# Altium footprint library lib_driver.pcblib: 30 footprints (part 3 of 5)
Each footprint in its own frame and in the unit in brackets; x right, y up, seen from the top. Pads: shape width x height; smd on the part's side, far side on the other; paste and mask are expansions set on the pad; w line width, h text height; cw(c..) or ccw(c..) is an arc to the next point about the centre after c.
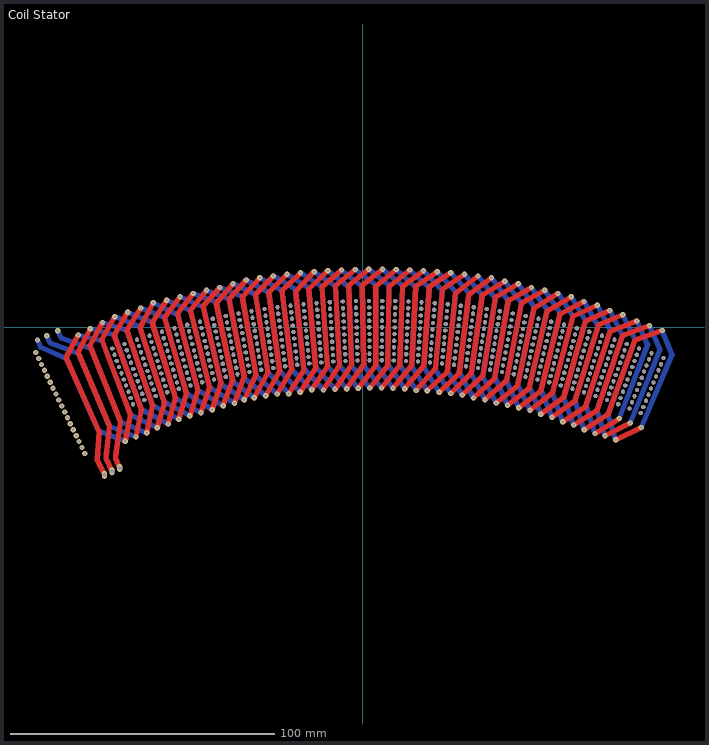
[diagram p2: the footprint, top view; thin cyan lines are the x and y axes]

## Coil Stator [mm] "Planar Coil"
pads (3):
  oval 2x3 hole 1.6: 1(-97.952,-55.855) 2(-95.076,-54.529) 3(-92.182,-53.241)
via 105.254,-32.44 diameter 1.6 hole 1.6
via 106.211,-30.13 diameter 1.6 hole 1.6
via 107.167,-27.82 diameter 1.6 hole 1.6
via 108.124,-25.511 diameter 1.6 hole 1.6
via 109.081,-23.201 diameter 1.6 hole 1.6
via 110.037,-20.891 diameter 1.6 hole 1.6
via 110.994,-18.582 diameter 1.6 hole 1.6
via 111.951,-16.272 diameter 1.6 hole 1.6
via 112.907,-13.962 diameter 1.6 hole 1.6
via 113.864,-11.652 diameter 1.6 hole 1.6
via 109.252,-9.789 diameter 1.6 hole 1.6
via 108.336,-12.115 diameter 1.6 hole 1.6
via 107.42,-14.441 diameter 1.6 hole 1.6
via 106.504,-16.767 diameter 1.6 hole 1.6
via 105.587,-19.093 diameter 1.6 hole 1.6
via 104.671,-21.419 diameter 1.6 hole 1.6
via 103.755,-23.745 diameter 1.6 hole 1.6
via 102.838,-26.071 diameter 1.6 hole 1.6
via 101.922,-28.397 diameter 1.6 hole 1.6
via 101.006,-30.724 diameter 1.6 hole 1.6
via 96.729,-29.082 diameter 1.6 hole 1.6
via 97.604,-26.74 diameter 1.6 hole 1.6
via 98.48,-24.398 diameter 1.6 hole 1.6
via 99.355,-22.057 diameter 1.6 hole 1.6
via 100.231,-19.715 diameter 1.6 hole 1.6
via 101.106,-17.373 diameter 1.6 hole 1.6
via 101.982,-15.032 diameter 1.6 hole 1.6
via 102.857,-12.69 diameter 1.6 hole 1.6
via 103.733,-10.348 diameter 1.6 hole 1.6
via 104.609,-8.007 diameter 1.6 hole 1.6
via 99.934,-6.305 diameter 1.6 hole 1.6
via 99.1,-8.662 diameter 1.6 hole 1.6
via 98.265,-11.018 diameter 1.6 hole 1.6
via 97.431,-13.375 diameter 1.6 hole 1.6
via 96.596,-15.732 diameter 1.6 hole 1.6
via 95.762,-18.088 diameter 1.6 hole 1.6
via 94.927,-20.445 diameter 1.6 hole 1.6
via 94.093,-22.802 diameter 1.6 hole 1.6
via 93.258,-25.158 diameter 1.6 hole 1.6
via 92.424,-27.515 diameter 1.6 hole 1.6
via 88.092,-26.023 diameter 1.6 hole 1.6
via 88.885,-23.652 diameter 1.6 hole 1.6
via 89.678,-21.282 diameter 1.6 hole 1.6
via 90.472,-18.911 diameter 1.6 hole 1.6
via 91.265,-16.54 diameter 1.6 hole 1.6
via 92.058,-14.169 diameter 1.6 hole 1.6
via 92.851,-11.798 diameter 1.6 hole 1.6
via 93.645,-9.427 diameter 1.6 hole 1.6
via 94.438,-7.057 diameter 1.6 hole 1.6
via 95.231,-4.686 diameter 1.6 hole 1.6
via 105.413,-37.928 diameter 2 hole 1
via 95.735,-42.62 diameter 2 hole 1
via 91.666,-41.068 diameter 2 hole 1
via 113.331,-1.186 diameter 2 hole 1
via 108.537,0.666 diameter 2 hole 1
via 103.711,2.434 diameter 2 hole 1
via 101.261,-36.208 diameter 2 hole 1
via 97.079,-34.561 diameter 2 hole 1
via 87.917,-40.24 diameter 2 hole 1
via 103.711,2.434 diameter 2 hole 1
via 108.537,0.666 diameter 2 hole 1
via 113.331,-1.186 diameter 2 hole 1
via 105.413,-37.928 diameter 2 hole 1
via 101.261,-36.208 diameter 2 hole 1
via 97.079,-34.561 diameter 2 hole 1
via 95.735,-42.62 diameter 2 hole 1
via 91.666,-41.068 diameter 2 hole 1
via 87.917,-40.24 diameter 2 hole 1
via 103.711,2.434 diameter 2 hole 1
via 108.537,0.666 diameter 2 hole 1
via 113.331,-1.186 diameter 2 hole 1
via 105.413,-37.928 diameter 2 hole 1
via 101.261,-36.208 diameter 2 hole 1
via 97.079,-34.561 diameter 2 hole 1
via 95.735,-42.62 diameter 2 hole 1
via 91.666,-41.068 diameter 2 hole 1
via 87.917,-40.24 diameter 2 hole 1
via 113.331,-1.186 diameter 2 hole 1
via 108.537,0.666 diameter 2 hole 1
via 103.711,2.434 diameter 2 hole 1
via 105.413,-37.928 diameter 2 hole 1
via 101.261,-36.208 diameter 2 hole 1
via 97.079,-34.561 diameter 2 hole 1
via 95.735,-42.62 diameter 2 hole 1
via 91.666,-41.068 diameter 2 hole 1
via 87.917,-40.24 diameter 2 hole 1
via 113.331,-1.186 diameter 2 hole 1
via 108.537,0.666 diameter 2 hole 1
via 103.711,2.434 diameter 2 hole 1
via 105.413,-37.928 diameter 2 hole 1
via 101.261,-36.208 diameter 2 hole 1
via 97.079,-34.561 diameter 2 hole 1
via 95.735,-42.62 diameter 2 hole 1
via 91.666,-41.068 diameter 2 hole 1
via 87.917,-40.24 diameter 2 hole 1
via 113.331,-1.186 diameter 2 hole 1
via 108.537,0.666 diameter 2 hole 1
via 103.711,2.434 diameter 2 hole 1
via 105.413,-37.928 diameter 2 hole 1
via 101.261,-36.208 diameter 2 hole 1
via 97.079,-34.561 diameter 2 hole 1
via 95.735,-42.62 diameter 2 hole 1
via 91.666,-41.068 diameter 2 hole 1
via 87.917,-40.24 diameter 2 hole 1
via 97.079,-34.561 diameter 2 hole 1
via 58.832,16.577 diameter 2 hole 1
via 68.865,14.025 diameter 2 hole 1
via 63.812,15.099 diameter 2 hole 1
via 38.421,20.133 diameter 2 hole 1
via -45.001,-27.418 diameter 2 hole 1
via 59.018,-30.396 diameter 2 hole 1
via 50.449,-28.653 diameter 2 hole 1
via 54.741,-29.487 diameter 2 hole 1
via 83.808,-38.826 diameter 2 hole 1
via 33.27,-25.075 diameter 2 hole 1
via 79.825,-37.006 diameter 2 hole 1
via -90.052,-43.11 diameter 2 hole 1
via -85.991,-41.49 diameter 2 hole 1
via -81.903,-39.941 diameter 2 hole 1
via -77.953,-37.992 diameter 2 hole 1
via -69.781,-34.771 diameter 2 hole 1
via -65.578,-33.506 diameter 2 hole 1
via -61.353,-32.314 diameter 2 hole 1
via -52.959,-29.667 diameter 2 hole 1
via -48.669,-28.696 diameter 2 hole 1
via -41.215,-26.686 diameter 2 hole 1
via -32.522,-25.232 diameter 2 hole 1
via -36.875,-25.921 diameter 2 hole 1
via -28.093,-25.114 diameter 2 hole 1
via -23.728,-24.578 diameter 2 hole 1
via -19.402,-23.621 diameter 2 hole 1
via -14.972,-23.735 diameter 2 hole 1
via -10.585,-23.428 diameter 2 hole 1
via -6.193,-23.198 diameter 2 hole 1
via -1.797,-23.045 diameter 2 hole 1
via 2.6,-22.968 diameter 2 hole 1
via 6.998,-22.968 diameter 2 hole 1
via 11.396,-23.045 diameter 2 hole 1
via 15.791,-23.198 diameter 2 hole 1
via 20.153,-23.927 diameter 2 hole 1
via 28.905,-24.616 diameter 2 hole 1
via 37.627,-25.61 diameter 2 hole 1
via 41.9,-26.715 diameter 2 hole 1
via 46.226,-27.401 diameter 2 hole 1
via 63.277,-31.38 diameter 2 hole 1
via 67.394,-32.921 diameter 2 hole 1
via 71.609,-34.051 diameter 2 hole 1
via 75.661,-35.733 diameter 2 hole 1
via 12.574,21.94 diameter 2 hole 1
via 98.404,4.797 diameter 2 hole 1
via 93.508,6.388 diameter 2 hole 1
via 88.726,8.373 diameter 2 hole 1
via 83.768,9.794 diameter 2 hole 1
via 78.912,11.613 diameter 2 hole 1
via 73.899,12.863 diameter 2 hole 1
via 53.736,17.475 diameter 2 hole 1
via 48.699,18.779 diameter 2 hole 1
via 43.566,19.501 diameter 2 hole 1
via 33.266,20.674 diameter 2 hole 1
via 28.102,21.126 diameter 2 hole 1
via 22.931,21.488 diameter 2 hole 1
via 17.754,21.759 diameter 2 hole 1
via 7.391,22.03 diameter 2 hole 1
via 2.208,22.03 diameter 2 hole 1
via -2.975,21.94 diameter 2 hole 1
via -8.156,21.759 diameter 2 hole 1
via -13.332,21.488 diameter 2 hole 1
via -18.503,21.126 diameter 2 hole 1
via -23.667,20.674 diameter 2 hole 1
via -28.822,20.133 diameter 2 hole 1
via -33.967,19.501 diameter 2 hole 1
via -39.1,18.779 diameter 2 hole 1
via -44.22,17.969 diameter 2 hole 1
via -49.233,16.577 diameter 2 hole 1
via -54.213,15.099 diameter 2 hole 1
via -59.267,14.025 diameter 2 hole 1
via -64.3,12.863 diameter 2 hole 1
via -69.313,11.613 diameter 2 hole 1
via -74.303,10.276 diameter 2 hole 1
via -79.411,9.332 diameter 2 hole 1
via -84.209,7.342 diameter 2 hole 1
via -89.123,5.746 diameter 2 hole 1
via -94.007,4.064 diameter 2 hole 1
via -98.687,1.828 diameter 2 hole 1
via -103.318,-0.485 diameter 2 hole 1
via -107.901,-2.876 diameter 2 hole 1
via -57.108,-31.197 diameter 2 hole 1
via -73.805,-36.584 diameter 2 hole 1
via 24.301,-23.986 diameter 2 hole 1
via 58.832,16.577 diameter 2 hole 1
via 68.865,14.025 diameter 2 hole 1
via 63.812,15.099 diameter 2 hole 1
via 38.421,20.133 diameter 2 hole 1
via -45.001,-27.418 diameter 2 hole 1
via 59.018,-30.396 diameter 2 hole 1
via 50.449,-28.653 diameter 2 hole 1
via 54.741,-29.487 diameter 2 hole 1
via 83.808,-38.826 diameter 2 hole 1
via 33.27,-25.075 diameter 2 hole 1
via 79.825,-37.006 diameter 2 hole 1
via -90.052,-43.11 diameter 2 hole 1
via -85.991,-41.49 diameter 2 hole 1
via -81.903,-39.941 diameter 2 hole 1
via -77.953,-37.992 diameter 2 hole 1
via -69.781,-34.771 diameter 2 hole 1
via -65.578,-33.506 diameter 2 hole 1
via -61.353,-32.314 diameter 2 hole 1
via -52.959,-29.667 diameter 2 hole 1
via -48.669,-28.696 diameter 2 hole 1
via -41.215,-26.686 diameter 2 hole 1
via -32.522,-25.232 diameter 2 hole 1
via -36.875,-25.921 diameter 2 hole 1
via -28.093,-25.114 diameter 2 hole 1
via -23.728,-24.578 diameter 2 hole 1
via -19.402,-23.621 diameter 2 hole 1
via -14.972,-23.735 diameter 2 hole 1
via -10.585,-23.428 diameter 2 hole 1
via -6.193,-23.198 diameter 2 hole 1
via -1.797,-23.045 diameter 2 hole 1
via 2.6,-22.968 diameter 2 hole 1
via 6.998,-22.968 diameter 2 hole 1
via 11.396,-23.045 diameter 2 hole 1
via 15.791,-23.198 diameter 2 hole 1
via 20.153,-23.927 diameter 2 hole 1
via 28.905,-24.616 diameter 2 hole 1
via 37.627,-25.61 diameter 2 hole 1
via 41.9,-26.715 diameter 2 hole 1
via 46.226,-27.401 diameter 2 hole 1
via 63.277,-31.38 diameter 2 hole 1
via 67.394,-32.921 diameter 2 hole 1
via 71.609,-34.051 diameter 2 hole 1
via 75.661,-35.733 diameter 2 hole 1
via 12.574,21.94 diameter 2 hole 1
via 98.404,4.797 diameter 2 hole 1
via 93.508,6.388 diameter 2 hole 1
via 88.726,8.373 diameter 2 hole 1
via 83.768,9.794 diameter 2 hole 1
via 78.912,11.613 diameter 2 hole 1
via 73.899,12.863 diameter 2 hole 1
via 53.736,17.475 diameter 2 hole 1
via 48.699,18.779 diameter 2 hole 1
via 43.566,19.501 diameter 2 hole 1
via 33.266,20.674 diameter 2 hole 1
via 28.102,21.126 diameter 2 hole 1
via 22.931,21.488 diameter 2 hole 1
via 17.754,21.759 diameter 2 hole 1
via 7.391,22.03 diameter 2 hole 1
via 2.208,22.03 diameter 2 hole 1
via -2.975,21.94 diameter 2 hole 1
via -8.156,21.759 diameter 2 hole 1
via -13.332,21.488 diameter 2 hole 1
via -18.503,21.126 diameter 2 hole 1
via -23.667,20.674 diameter 2 hole 1
via -28.822,20.133 diameter 2 hole 1
via -33.967,19.501 diameter 2 hole 1
via -39.1,18.779 diameter 2 hole 1
via -44.22,17.969 diameter 2 hole 1
via -49.233,16.577 diameter 2 hole 1
via -54.213,15.099 diameter 2 hole 1
via -59.267,14.025 diameter 2 hole 1
via -64.3,12.863 diameter 2 hole 1
via -69.313,11.613 diameter 2 hole 1
via -74.303,10.276 diameter 2 hole 1
via -79.411,9.332 diameter 2 hole 1
via -84.209,7.342 diameter 2 hole 1
via -89.123,5.746 diameter 2 hole 1
via -94.007,4.064 diameter 2 hole 1
via -98.687,1.828 diameter 2 hole 1
via -103.318,-0.485 diameter 2 hole 1
via -107.901,-2.876 diameter 2 hole 1
via -57.108,-31.197 diameter 2 hole 1
via -73.805,-36.584 diameter 2 hole 1
via 24.301,-23.986 diameter 2 hole 1
via 58.832,16.577 diameter 2 hole 1
via 68.865,14.025 diameter 2 hole 1
via 63.812,15.099 diameter 2 hole 1
via 38.421,20.133 diameter 2 hole 1
via -45.001,-27.418 diameter 2 hole 1
via 59.018,-30.396 diameter 2 hole 1
via 50.449,-28.653 diameter 2 hole 1
via 54.741,-29.487 diameter 2 hole 1
via 83.808,-38.826 diameter 2 hole 1
via 33.27,-25.075 diameter 2 hole 1
via 79.825,-37.006 diameter 2 hole 1
via -90.052,-43.11 diameter 2 hole 1
via -85.991,-41.49 diameter 2 hole 1
via -81.903,-39.941 diameter 2 hole 1
via -77.953,-37.992 diameter 2 hole 1
via -69.781,-34.771 diameter 2 hole 1
via -65.578,-33.506 diameter 2 hole 1
via -61.353,-32.314 diameter 2 hole 1
via -52.959,-29.667 diameter 2 hole 1
via -48.669,-28.696 diameter 2 hole 1
via -41.215,-26.686 diameter 2 hole 1
via -32.522,-25.232 diameter 2 hole 1
via -36.875,-25.921 diameter 2 hole 1
via -28.093,-25.114 diameter 2 hole 1
via -23.728,-24.578 diameter 2 hole 1
via -19.402,-23.621 diameter 2 hole 1
via -14.972,-23.735 diameter 2 hole 1
via -10.585,-23.428 diameter 2 hole 1
via -6.193,-23.198 diameter 2 hole 1
via -1.797,-23.045 diameter 2 hole 1
via 2.6,-22.968 diameter 2 hole 1
via 6.998,-22.968 diameter 2 hole 1
via 11.396,-23.045 diameter 2 hole 1
via 15.791,-23.198 diameter 2 hole 1
via 20.153,-23.927 diameter 2 hole 1
via 28.905,-24.616 diameter 2 hole 1
via 37.627,-25.61 diameter 2 hole 1
via 41.9,-26.715 diameter 2 hole 1
via 46.226,-27.401 diameter 2 hole 1
via 63.277,-31.38 diameter 2 hole 1
via 67.394,-32.921 diameter 2 hole 1
via 71.609,-34.051 diameter 2 hole 1
via 75.661,-35.733 diameter 2 hole 1
via 12.574,21.94 diameter 2 hole 1
via 98.404,4.797 diameter 2 hole 1
via 93.508,6.388 diameter 2 hole 1
via 88.726,8.373 diameter 2 hole 1
via 83.768,9.794 diameter 2 hole 1
via 78.912,11.613 diameter 2 hole 1
via 73.899,12.863 diameter 2 hole 1
via 53.736,17.475 diameter 2 hole 1
via 48.699,18.779 diameter 2 hole 1
via 43.566,19.501 diameter 2 hole 1
via 33.266,20.674 diameter 2 hole 1
via 28.102,21.126 diameter 2 hole 1
via 22.931,21.488 diameter 2 hole 1
via 17.754,21.759 diameter 2 hole 1
via 7.391,22.03 diameter 2 hole 1
via 2.208,22.03 diameter 2 hole 1
via -2.975,21.94 diameter 2 hole 1
via -8.156,21.759 diameter 2 hole 1
via -13.332,21.488 diameter 2 hole 1
via -18.503,21.126 diameter 2 hole 1
via -23.667,20.674 diameter 2 hole 1
via -28.822,20.133 diameter 2 hole 1
via -33.967,19.501 diameter 2 hole 1
via -39.1,18.779 diameter 2 hole 1
via -44.22,17.969 diameter 2 hole 1
via -49.233,16.577 diameter 2 hole 1
via -54.213,15.099 diameter 2 hole 1
via -59.267,14.025 diameter 2 hole 1
via -64.3,12.863 diameter 2 hole 1
via -69.313,11.613 diameter 2 hole 1
via -74.303,10.276 diameter 2 hole 1
via -79.411,9.332 diameter 2 hole 1
via -84.209,7.342 diameter 2 hole 1
via -89.123,5.746 diameter 2 hole 1
via -94.007,4.064 diameter 2 hole 1
via -98.687,1.828 diameter 2 hole 1
via -103.318,-0.485 diameter 2 hole 1
via -107.901,-2.876 diameter 2 hole 1
via -57.108,-31.197 diameter 2 hole 1
via -73.805,-36.584 diameter 2 hole 1
via 24.301,-23.986 diameter 2 hole 1
via 58.832,16.577 diameter 2 hole 1
via 68.865,14.025 diameter 2 hole 1
via 63.812,15.099 diameter 2 hole 1
via 38.421,20.133 diameter 2 hole 1
via -45.001,-27.418 diameter 2 hole 1
via 59.018,-30.396 diameter 2 hole 1
via 50.449,-28.653 diameter 2 hole 1
via 54.741,-29.487 diameter 2 hole 1
via 83.808,-38.826 diameter 2 hole 1
via 33.27,-25.075 diameter 2 hole 1
via 79.825,-37.006 diameter 2 hole 1
via -90.052,-43.11 diameter 2 hole 1
via -85.991,-41.49 diameter 2 hole 1
via -81.903,-39.941 diameter 2 hole 1
via -77.953,-37.992 diameter 2 hole 1
via -69.781,-34.771 diameter 2 hole 1
via -65.578,-33.506 diameter 2 hole 1
via -61.353,-32.314 diameter 2 hole 1
via -52.959,-29.667 diameter 2 hole 1
via -48.669,-28.696 diameter 2 hole 1
via -41.215,-26.686 diameter 2 hole 1
via -32.522,-25.232 diameter 2 hole 1
via -36.875,-25.921 diameter 2 hole 1
via -28.093,-25.114 diameter 2 hole 1
via -23.728,-24.578 diameter 2 hole 1
via -19.402,-23.621 diameter 2 hole 1
via -14.972,-23.735 diameter 2 hole 1
via -10.585,-23.428 diameter 2 hole 1
via -6.193,-23.198 diameter 2 hole 1
via -1.797,-23.045 diameter 2 hole 1
via 2.6,-22.968 diameter 2 hole 1
via 6.998,-22.968 diameter 2 hole 1
via 11.396,-23.045 diameter 2 hole 1
via 15.791,-23.198 diameter 2 hole 1
via 20.153,-23.927 diameter 2 hole 1
via 28.905,-24.616 diameter 2 hole 1
via 37.627,-25.61 diameter 2 hole 1
via 41.9,-26.715 diameter 2 hole 1
via 46.226,-27.401 diameter 2 hole 1
via 63.277,-31.38 diameter 2 hole 1
via 67.394,-32.921 diameter 2 hole 1
via 71.609,-34.051 diameter 2 hole 1
via 75.661,-35.733 diameter 2 hole 1
via 12.574,21.94 diameter 2 hole 1
via 98.404,4.797 diameter 2 hole 1
via 93.508,6.388 diameter 2 hole 1
via 88.726,8.373 diameter 2 hole 1
via 83.768,9.794 diameter 2 hole 1
via 78.912,11.613 diameter 2 hole 1
via 73.899,12.863 diameter 2 hole 1
via 53.736,17.475 diameter 2 hole 1
via 48.699,18.779 diameter 2 hole 1
via 43.566,19.501 diameter 2 hole 1
via 33.266,20.674 diameter 2 hole 1
via 28.102,21.126 diameter 2 hole 1
via 22.931,21.488 diameter 2 hole 1
via 17.754,21.759 diameter 2 hole 1
via 7.391,22.03 diameter 2 hole 1
via 2.208,22.03 diameter 2 hole 1
via -2.975,21.94 diameter 2 hole 1
via -8.156,21.759 diameter 2 hole 1
via -13.332,21.488 diameter 2 hole 1
via -18.503,21.126 diameter 2 hole 1
via -23.667,20.674 diameter 2 hole 1
via -28.822,20.133 diameter 2 hole 1
via -33.967,19.501 diameter 2 hole 1
via -39.1,18.779 diameter 2 hole 1
via -44.22,17.969 diameter 2 hole 1
via -49.233,16.577 diameter 2 hole 1
via -54.213,15.099 diameter 2 hole 1
via -59.267,14.025 diameter 2 hole 1
via -64.3,12.863 diameter 2 hole 1
via -69.313,11.613 diameter 2 hole 1
via -74.303,10.276 diameter 2 hole 1
via -79.411,9.332 diameter 2 hole 1
via -84.209,7.342 diameter 2 hole 1
via -89.123,5.746 diameter 2 hole 1
via -94.007,4.064 diameter 2 hole 1
via -98.687,1.828 diameter 2 hole 1
via -103.318,-0.485 diameter 2 hole 1
via -107.901,-2.876 diameter 2 hole 1
via -57.108,-31.197 diameter 2 hole 1
via -73.805,-36.584 diameter 2 hole 1
via 24.301,-23.986 diameter 2 hole 1
via 58.832,16.577 diameter 2 hole 1
via 68.865,14.025 diameter 2 hole 1
via 63.812,15.099 diameter 2 hole 1
via 38.421,20.133 diameter 2 hole 1
via -45.001,-27.418 diameter 2 hole 1
via 59.018,-30.396 diameter 2 hole 1
via 50.449,-28.653 diameter 2 hole 1
via 54.741,-29.487 diameter 2 hole 1
via 83.808,-38.826 diameter 2 hole 1
via 33.27,-25.075 diameter 2 hole 1
via 79.825,-37.006 diameter 2 hole 1
via -90.052,-43.11 diameter 2 hole 1
via -85.991,-41.49 diameter 2 hole 1
via -81.903,-39.941 diameter 2 hole 1
via -77.953,-37.992 diameter 2 hole 1
via -69.781,-34.771 diameter 2 hole 1
via -65.578,-33.506 diameter 2 hole 1
via -61.353,-32.314 diameter 2 hole 1
via -52.959,-29.667 diameter 2 hole 1
via -48.669,-28.696 diameter 2 hole 1
via -41.215,-26.686 diameter 2 hole 1
via -32.522,-25.232 diameter 2 hole 1
via -36.875,-25.921 diameter 2 hole 1
via -28.093,-25.114 diameter 2 hole 1
via -23.728,-24.578 diameter 2 hole 1
via -19.402,-23.621 diameter 2 hole 1
via -14.972,-23.735 diameter 2 hole 1
via -10.585,-23.428 diameter 2 hole 1
via -6.193,-23.198 diameter 2 hole 1
via -1.797,-23.045 diameter 2 hole 1
via 2.6,-22.968 diameter 2 hole 1
via 6.998,-22.968 diameter 2 hole 1
via 11.396,-23.045 diameter 2 hole 1
via 15.791,-23.198 diameter 2 hole 1
via 20.153,-23.927 diameter 2 hole 1
via 28.905,-24.616 diameter 2 hole 1
via 37.627,-25.61 diameter 2 hole 1
via 41.9,-26.715 diameter 2 hole 1
via 46.226,-27.401 diameter 2 hole 1
via 63.277,-31.38 diameter 2 hole 1
via 67.394,-32.921 diameter 2 hole 1
via 71.609,-34.051 diameter 2 hole 1
via 75.661,-35.733 diameter 2 hole 1
via 12.574,21.94 diameter 2 hole 1
via 98.404,4.797 diameter 2 hole 1
via 93.508,6.388 diameter 2 hole 1
via 88.726,8.373 diameter 2 hole 1
via 83.768,9.794 diameter 2 hole 1
via 78.912,11.613 diameter 2 hole 1
via 73.899,12.863 diameter 2 hole 1
via 53.736,17.475 diameter 2 hole 1
via 48.699,18.779 diameter 2 hole 1
via 43.566,19.501 diameter 2 hole 1
via 33.266,20.674 diameter 2 hole 1
via 28.102,21.126 diameter 2 hole 1
via 22.931,21.488 diameter 2 hole 1
via 17.754,21.759 diameter 2 hole 1
via 7.391,22.03 diameter 2 hole 1
via 2.208,22.03 diameter 2 hole 1
via -2.975,21.94 diameter 2 hole 1
via -8.156,21.759 diameter 2 hole 1
via -13.332,21.488 diameter 2 hole 1
via -18.503,21.126 diameter 2 hole 1
via -23.667,20.674 diameter 2 hole 1
via -28.822,20.133 diameter 2 hole 1
via -33.967,19.501 diameter 2 hole 1
via -39.1,18.779 diameter 2 hole 1
via -44.22,17.969 diameter 2 hole 1
via -49.233,16.577 diameter 2 hole 1
via -54.213,15.099 diameter 2 hole 1
via -59.267,14.025 diameter 2 hole 1
via -64.3,12.863 diameter 2 hole 1
via -69.313,11.613 diameter 2 hole 1
via -74.303,10.276 diameter 2 hole 1
via -79.411,9.332 diameter 2 hole 1
via -84.209,7.342 diameter 2 hole 1
via -89.123,5.746 diameter 2 hole 1
via -94.007,4.064 diameter 2 hole 1
via -98.687,1.828 diameter 2 hole 1
via -103.318,-0.485 diameter 2 hole 1
via -107.901,-2.876 diameter 2 hole 1
via -57.108,-31.197 diameter 2 hole 1
via -73.805,-36.584 diameter 2 hole 1
via 24.301,-23.986 diameter 2 hole 1
via 58.832,16.577 diameter 2 hole 1
via 68.865,14.025 diameter 2 hole 1
via 63.812,15.099 diameter 2 hole 1
via 38.421,20.133 diameter 2 hole 1
via -45.001,-27.418 diameter 2 hole 1
via 59.018,-30.396 diameter 2 hole 1
via 50.449,-28.653 diameter 2 hole 1
via 54.741,-29.487 diameter 2 hole 1
via 83.808,-38.826 diameter 2 hole 1
via 33.27,-25.075 diameter 2 hole 1
via 79.825,-37.006 diameter 2 hole 1
via -90.052,-43.11 diameter 2 hole 1
via -85.991,-41.49 diameter 2 hole 1
via -81.903,-39.941 diameter 2 hole 1
via -77.953,-37.992 diameter 2 hole 1
via -69.781,-34.771 diameter 2 hole 1
via -65.578,-33.506 diameter 2 hole 1
via -61.353,-32.314 diameter 2 hole 1
via -52.959,-29.667 diameter 2 hole 1
via -48.669,-28.696 diameter 2 hole 1
via -41.215,-26.686 diameter 2 hole 1
via -32.522,-25.232 diameter 2 hole 1
via -36.875,-25.921 diameter 2 hole 1
via -28.093,-25.114 diameter 2 hole 1
via -23.728,-24.578 diameter 2 hole 1
via -19.402,-23.621 diameter 2 hole 1
via -14.972,-23.735 diameter 2 hole 1
via -10.585,-23.428 diameter 2 hole 1
via -6.193,-23.198 diameter 2 hole 1
via -1.797,-23.045 diameter 2 hole 1
via 2.6,-22.968 diameter 2 hole 1
via 6.998,-22.968 diameter 2 hole 1
via 11.396,-23.045 diameter 2 hole 1
via 15.791,-23.198 diameter 2 hole 1
via 20.153,-23.927 diameter 2 hole 1
via 28.905,-24.616 diameter 2 hole 1
via 37.627,-25.61 diameter 2 hole 1
via 41.9,-26.715 diameter 2 hole 1
via 46.226,-27.401 diameter 2 hole 1
via 63.277,-31.38 diameter 2 hole 1
via 67.394,-32.921 diameter 2 hole 1
via 71.609,-34.051 diameter 2 hole 1
via 75.661,-35.733 diameter 2 hole 1
via 12.574,21.94 diameter 2 hole 1
via 98.404,4.797 diameter 2 hole 1
via 93.508,6.388 diameter 2 hole 1
via 88.726,8.373 diameter 2 hole 1
via 83.768,9.794 diameter 2 hole 1
via 78.912,11.613 diameter 2 hole 1
via 73.899,12.863 diameter 2 hole 1
via 53.736,17.475 diameter 2 hole 1
via 48.699,18.779 diameter 2 hole 1
via 43.566,19.501 diameter 2 hole 1
via 33.266,20.674 diameter 2 hole 1
via 28.102,21.126 diameter 2 hole 1
via 22.931,21.488 diameter 2 hole 1
via 17.754,21.759 diameter 2 hole 1
via 7.391,22.03 diameter 2 hole 1
via 2.208,22.03 diameter 2 hole 1
via -2.975,21.94 diameter 2 hole 1
via -8.156,21.759 diameter 2 hole 1
via -13.332,21.488 diameter 2 hole 1
via -18.503,21.126 diameter 2 hole 1
via -23.667,20.674 diameter 2 hole 1
via -28.822,20.133 diameter 2 hole 1
via -33.967,19.501 diameter 2 hole 1
via -39.1,18.779 diameter 2 hole 1
via -44.22,17.969 diameter 2 hole 1
via -49.233,16.577 diameter 2 hole 1
via -54.213,15.099 diameter 2 hole 1
via -59.267,14.025 diameter 2 hole 1
via -64.3,12.863 diameter 2 hole 1
via -69.313,11.613 diameter 2 hole 1
via -74.303,10.276 diameter 2 hole 1
via -79.411,9.332 diameter 2 hole 1
via -84.209,7.342 diameter 2 hole 1
via -89.123,5.746 diameter 2 hole 1
via -94.007,4.064 diameter 2 hole 1
via -98.687,1.828 diameter 2 hole 1
via -103.318,-0.485 diameter 2 hole 1
via -107.901,-2.876 diameter 2 hole 1
via -57.108,-31.197 diameter 2 hole 1
via -73.805,-36.584 diameter 2 hole 1
via 24.301,-23.986 diameter 2 hole 1
via 24.301,-23.986 diameter 2 hole 1
via -73.805,-36.584 diameter 2 hole 1
via -57.108,-31.197 diameter 2 hole 1
via -107.901,-2.876 diameter 2 hole 1
via -103.318,-0.485 diameter 2 hole 1
via -98.687,1.828 diameter 2 hole 1
via -94.007,4.064 diameter 2 hole 1
via -89.123,5.746 diameter 2 hole 1
via -84.209,7.342 diameter 2 hole 1
via -79.411,9.332 diameter 2 hole 1
via -74.303,10.276 diameter 2 hole 1
via -69.313,11.613 diameter 2 hole 1
via -64.3,12.863 diameter 2 hole 1
via -59.267,14.025 diameter 2 hole 1
via -54.213,15.099 diameter 2 hole 1
via -49.233,16.577 diameter 2 hole 1
via -44.22,17.969 diameter 2 hole 1
via -39.1,18.779 diameter 2 hole 1
via -33.967,19.501 diameter 2 hole 1
via -28.822,20.133 diameter 2 hole 1
via -23.667,20.674 diameter 2 hole 1
via -18.503,21.126 diameter 2 hole 1
via -13.332,21.488 diameter 2 hole 1
via -8.156,21.759 diameter 2 hole 1
via -2.975,21.94 diameter 2 hole 1
via 2.208,22.03 diameter 2 hole 1
via 7.391,22.03 diameter 2 hole 1
via 17.754,21.759 diameter 2 hole 1
via 22.931,21.488 diameter 2 hole 1
via 28.102,21.126 diameter 2 hole 1
via 33.266,20.674 diameter 2 hole 1
via 43.566,19.501 diameter 2 hole 1
via 48.699,18.779 diameter 2 hole 1
via 53.736,17.475 diameter 2 hole 1
via 73.899,12.863 diameter 2 hole 1
via 78.912,11.613 diameter 2 hole 1
via 83.768,9.794 diameter 2 hole 1
via 88.726,8.373 diameter 2 hole 1
via 93.508,6.388 diameter 2 hole 1
via 98.404,4.797 diameter 2 hole 1
via 12.574,21.94 diameter 2 hole 1
via 75.661,-35.733 diameter 2 hole 1
via 71.609,-34.051 diameter 2 hole 1
via 67.394,-32.921 diameter 2 hole 1
via 63.277,-31.38 diameter 2 hole 1
via 46.226,-27.401 diameter 2 hole 1
via 41.9,-26.715 diameter 2 hole 1
via 37.627,-25.61 diameter 2 hole 1
via 28.905,-24.616 diameter 2 hole 1
via 20.153,-23.927 diameter 2 hole 1
via 15.791,-23.198 diameter 2 hole 1
via 11.396,-23.045 diameter 2 hole 1
via 6.998,-22.968 diameter 2 hole 1
via 2.6,-22.968 diameter 2 hole 1
via -1.797,-23.045 diameter 2 hole 1
via -6.193,-23.198 diameter 2 hole 1
via -10.585,-23.428 diameter 2 hole 1
via -14.972,-23.735 diameter 2 hole 1
via -19.402,-23.621 diameter 2 hole 1
via -23.728,-24.578 diameter 2 hole 1
via -28.093,-25.114 diameter 2 hole 1
via -36.875,-25.921 diameter 2 hole 1
via -32.522,-25.232 diameter 2 hole 1
via -41.215,-26.686 diameter 2 hole 1
via -48.669,-28.696 diameter 2 hole 1
via -52.959,-29.667 diameter 2 hole 1
via -61.353,-32.314 diameter 2 hole 1
via -65.578,-33.506 diameter 2 hole 1
via -69.781,-34.771 diameter 2 hole 1
via -77.953,-37.992 diameter 2 hole 1
via -81.903,-39.941 diameter 2 hole 1
via -85.991,-41.49 diameter 2 hole 1
via -90.052,-43.11 diameter 2 hole 1
via 79.825,-37.006 diameter 2 hole 1
via 33.27,-25.075 diameter 2 hole 1
via -95.01,-8.007 diameter 1.6 hole 1.6
via -92.383,-15.032 diameter 1.6 hole 1.6
via -93.259,-12.69 diameter 1.6 hole 1.6
via -91.508,-17.373 diameter 1.6 hole 1.6
via -90.632,-19.715 diameter 1.6 hole 1.6
via -89.757,-22.057 diameter 1.6 hole 1.6
via -88.881,-24.398 diameter 1.6 hole 1.6
via -88.006,-26.74 diameter 1.6 hole 1.6
via -87.13,-29.082 diameter 1.6 hole 1.6
via -94.134,-10.348 diameter 1.6 hole 1.6
via -90.336,-6.305 diameter 1.6 hole 1.6
via -89.501,-8.662 diameter 1.6 hole 1.6
via -88.667,-11.018 diameter 1.6 hole 1.6
via -87.832,-13.375 diameter 1.6 hole 1.6
via -86.997,-15.732 diameter 1.6 hole 1.6
via -86.163,-18.088 diameter 1.6 hole 1.6
via -85.328,-20.445 diameter 1.6 hole 1.6
via -84.494,-22.802 diameter 1.6 hole 1.6
via -83.659,-25.158 diameter 1.6 hole 1.6
via -82.825,-27.515 diameter 1.6 hole 1.6
via -85.632,-4.686 diameter 1.6 hole 1.6
via -84.046,-9.427 diameter 1.6 hole 1.6
via -84.839,-7.057 diameter 1.6 hole 1.6
via -83.253,-11.798 diameter 1.6 hole 1.6
via -82.459,-14.169 diameter 1.6 hole 1.6
via -81.666,-16.54 diameter 1.6 hole 1.6
via -80.873,-18.911 diameter 1.6 hole 1.6
via -80.08,-21.282 diameter 1.6 hole 1.6
via -79.286,-23.652 diameter 1.6 hole 1.6
via -80.15,-5.533 diameter 1.6 hole 1.6
via -79.398,-7.917 diameter 1.6 hole 1.6
via -78.646,-10.302 diameter 1.6 hole 1.6
via -77.895,-12.686 diameter 1.6 hole 1.6
via -77.143,-15.07 diameter 1.6 hole 1.6
via -76.391,-17.455 diameter 1.6 hole 1.6
via -75.639,-19.839 diameter 1.6 hole 1.6
via -74.888,-22.223 diameter 1.6 hole 1.6
via -74.136,-24.607 diameter 1.6 hole 1.6
via -78.493,-26.023 diameter 1.6 hole 1.6
via -80.902,-3.149 diameter 1.6 hole 1.6
via -76.145,-1.694 diameter 1.6 hole 1.6
via -75.435,-4.092 diameter 1.6 hole 1.6
via -74.725,-6.489 diameter 1.6 hole 1.6
via -74.015,-8.886 diameter 1.6 hole 1.6
via -73.305,-11.283 diameter 1.6 hole 1.6
via -72.595,-13.68 diameter 1.6 hole 1.6
via -71.885,-16.077 diameter 1.6 hole 1.6
via -71.175,-18.474 diameter 1.6 hole 1.6
via -70.465,-20.871 diameter 1.6 hole 1.6
via -69.755,-23.268 diameter 1.6 hole 1.6
via -71.364,-0.323 diameter 1.6 hole 1.6
via -70.695,-2.733 diameter 1.6 hole 1.6
via -70.027,-5.142 diameter 1.6 hole 1.6
via -69.359,-7.551 diameter 1.6 hole 1.6
via -68.691,-9.96 diameter 1.6 hole 1.6
via -68.023,-12.369 diameter 1.6 hole 1.6
via -67.355,-14.778 diameter 1.6 hole 1.6
via -66.687,-17.187 diameter 1.6 hole 1.6
via -66.019,-19.596 diameter 1.6 hole 1.6
via -65.351,-22.005 diameter 1.6 hole 1.6
via -66.559,0.964 diameter 1.6 hole 1.6
via -65.933,-1.456 diameter 1.6 hole 1.6
via -65.307,-3.877 diameter 1.6 hole 1.6
via -64.681,-6.297 diameter 1.6 hole 1.6
via -64.055,-8.718 diameter 1.6 hole 1.6
via -63.429,-11.138 diameter 1.6 hole 1.6
via -62.803,-13.558 diameter 1.6 hole 1.6
via -62.177,-15.979 diameter 1.6 hole 1.6
via -61.551,-18.399 diameter 1.6 hole 1.6
via -60.925,-20.819 diameter 1.6 hole 1.6
via -61.733,2.167 diameter 1.6 hole 1.6
via -61.149,-0.264 diameter 1.6 hole 1.6
via -60.565,-2.695 diameter 1.6 hole 1.6
via -59.982,-5.125 diameter 1.6 hole 1.6
via -58.814,-9.987 diameter 1.6 hole 1.6
via -58.231,-12.418 diameter 1.6 hole 1.6
via -57.647,-14.849 diameter 1.6 hole 1.6
via -57.064,-17.28 diameter 1.6 hole 1.6
via -56.48,-19.711 diameter 1.6 hole 1.6
via -56.886,3.286 diameter 1.6 hole 1.6
via -56.345,0.846 diameter 1.6 hole 1.6
via -55.804,-1.595 diameter 1.6 hole 1.6
via -55.263,-4.036 diameter 1.6 hole 1.6
via -54.721,-6.477 diameter 1.6 hole 1.6
via -53.639,-11.358 diameter 1.6 hole 1.6
via -53.098,-13.799 diameter 1.6 hole 1.6
via -52.557,-16.24 diameter 1.6 hole 1.6
via -52.016,-18.68 diameter 1.6 hole 1.6
via -59.398,-7.556 diameter 1.6 hole 1.6
via -54.18,-8.917 diameter 1.6 hole 1.6
via -52.02,4.32 diameter 1.6 hole 1.6
via -51.522,1.871 diameter 1.6 hole 1.6
via -51.024,-0.579 diameter 1.6 hole 1.6
via -50.525,-3.029 diameter 1.6 hole 1.6
via -50.027,-5.479 diameter 1.6 hole 1.6
via -49.528,-7.929 diameter 1.6 hole 1.6
via -49.03,-10.378 diameter 1.6 hole 1.6
via -48.532,-12.828 diameter 1.6 hole 1.6
via -48.033,-15.278 diameter 1.6 hole 1.6
via -47.535,-17.728 diameter 1.6 hole 1.6
via -43.037,-16.854 diameter 1.6 hole 1.6
via -47.138,5.27 diameter 1.6 hole 1.6
via -46.682,2.811 diameter 1.6 hole 1.6
via -46.227,0.353 diameter 1.6 hole 1.6
via -45.771,-2.105 diameter 1.6 hole 1.6
via -45.315,-4.563 diameter 1.6 hole 1.6
via -44.86,-7.021 diameter 1.6 hole 1.6
via -44.404,-9.479 diameter 1.6 hole 1.6
via -43.949,-11.937 diameter 1.6 hole 1.6
via -43.493,-14.396 diameter 1.6 hole 1.6
via -42.239,6.133 diameter 1.6 hole 1.6
via -41.827,3.668 diameter 1.6 hole 1.6
via -41.414,1.202 diameter 1.6 hole 1.6
via -41.001,-1.264 diameter 1.6 hole 1.6
via -40.589,-3.73 diameter 1.6 hole 1.6
via -40.176,-6.195 diameter 1.6 hole 1.6
via -39.763,-8.661 diameter 1.6 hole 1.6
via -39.351,-11.127 diameter 1.6 hole 1.6
via -38.938,-13.592 diameter 1.6 hole 1.6
via -34.001,-15.341 diameter 1.6 hole 1.6
via -37.326,6.911 diameter 1.6 hole 1.6
via -36.957,4.439 diameter 1.6 hole 1.6
via -36.587,1.966 diameter 1.6 hole 1.6
via -36.218,-0.506 diameter 1.6 hole 1.6
via -35.848,-2.979 diameter 1.6 hole 1.6
via -35.479,-5.451 diameter 1.6 hole 1.6
via -35.109,-7.924 diameter 1.6 hole 1.6
via -34.74,-10.396 diameter 1.6 hole 1.6
via -34.37,-12.869 diameter 1.6 hole 1.6
via -32.401,7.604 diameter 1.6 hole 1.6
via -32.074,5.125 diameter 1.6 hole 1.6
via -31.748,2.646 diameter 1.6 hole 1.6
via -31.422,0.168 diameter 1.6 hole 1.6
via -31.095,-2.311 diameter 1.6 hole 1.6
via -30.769,-4.789 diameter 1.6 hole 1.6
via -30.443,-7.268 diameter 1.6 hole 1.6
via -30.116,-9.747 diameter 1.6 hole 1.6
via -29.79,-12.225 diameter 1.6 hole 1.6
via -24.916,-14.146 diameter 1.6 hole 1.6
via -27.464,8.21 diameter 1.6 hole 1.6
via -27.18,5.726 diameter 1.6 hole 1.6
via -26.897,3.242 diameter 1.6 hole 1.6
via -26.614,0.758 diameter 1.6 hole 1.6
via -26.331,-1.726 diameter 1.6 hole 1.6
via -26.048,-4.21 diameter 1.6 hole 1.6
via -25.765,-6.694 diameter 1.6 hole 1.6
via -29.464,-14.704 diameter 1.6 hole 1.6
via -25.199,-11.662 diameter 1.6 hole 1.6
via -25.482,-9.178 diameter 1.6 hole 1.6
via -38.526,-16.058 diameter 1.6 hole 1.6
via -22.517,8.73 diameter 1.6 hole 1.6
via -22.277,6.241 diameter 1.6 hole 1.6
via -22.037,3.753 diameter 1.6 hole 1.6
via -21.798,1.264 diameter 1.6 hole 1.6
via -21.558,-1.224 diameter 1.6 hole 1.6
via -21.319,-3.713 diameter 1.6 hole 1.6
via -21.079,-6.201 diameter 1.6 hole 1.6
via -20.839,-8.69 diameter 1.6 hole 1.6
via -20.6,-11.178 diameter 1.6 hole 1.6
via -20.36,-13.667 diameter 1.6 hole 1.6
via -17.561,9.163 diameter 1.6 hole 1.6
via -12.599,9.51 diameter 1.6 hole 1.6
via -7.632,9.771 diameter 1.6 hole 1.6
via -7.523,7.273 diameter 1.6 hole 1.6
via -7.414,4.775 diameter 1.6 hole 1.6
via -7.305,2.278 diameter 1.6 hole 1.6
via -7.196,-0.22 diameter 1.6 hole 1.6
via -7.087,-2.717 diameter 1.6 hole 1.6
via -6.978,-5.215 diameter 1.6 hole 1.6
via -6.869,-7.713 diameter 1.6 hole 1.6
via -6.76,-10.21 diameter 1.6 hole 1.6
via -6.651,-12.708 diameter 1.6 hole 1.6
via -12.447,7.015 diameter 1.6 hole 1.6
via -12.294,4.52 diameter 1.6 hole 1.6
via -12.142,2.024 diameter 1.6 hole 1.6
via -11.989,-0.471 diameter 1.6 hole 1.6
via -11.836,-2.966 diameter 1.6 hole 1.6
via -11.684,-5.462 diameter 1.6 hole 1.6
via -11.531,-7.957 diameter 1.6 hole 1.6
via -11.378,-10.452 diameter 1.6 hole 1.6
via -11.226,-12.948 diameter 1.6 hole 1.6
via -17.365,6.671 diameter 1.6 hole 1.6
via -17.169,4.179 diameter 1.6 hole 1.6
via -16.973,1.686 diameter 1.6 hole 1.6
via -16.777,-0.806 diameter 1.6 hole 1.6
via -16.581,-3.298 diameter 1.6 hole 1.6
via -16.385,-5.79 diameter 1.6 hole 1.6
via -16.188,-8.283 diameter 1.6 hole 1.6
via -15.992,-10.775 diameter 1.6 hole 1.6
via -15.796,-13.267 diameter 1.6 hole 1.6
via -2.661,9.944 diameter 1.6 hole 1.6
via 2.312,10.031 diameter 1.6 hole 1.6
via 7.286,10.031 diameter 1.6 hole 1.6
via 12.26,9.944 diameter 1.6 hole 1.6
via 12.194,7.445 diameter 1.6 hole 1.6
via 12.129,4.946 diameter 1.6 hole 1.6
via 12.064,2.447 diameter 1.6 hole 1.6
via 11.998,-0.052 diameter 1.6 hole 1.6
via 11.933,-2.551 diameter 1.6 hole 1.6
via 11.802,-7.55 diameter 1.6 hole 1.6
via 11.671,-12.548 diameter 1.6 hole 1.6
via 11.736,-10.049 diameter 1.6 hole 1.6
via 7.265,7.531 diameter 1.6 hole 1.6
via 7.243,5.031 diameter 1.6 hole 1.6
via 7.221,2.531 diameter 1.6 hole 1.6
via 7.199,0.031 diameter 1.6 hole 1.6
via 7.177,-2.468 diameter 1.6 hole 1.6
via 7.156,-4.968 diameter 1.6 hole 1.6
via 7.134,-7.468 diameter 1.6 hole 1.6
via 7.112,-9.968 diameter 1.6 hole 1.6
via 7.09,-12.468 diameter 1.6 hole 1.6
via 2.334,7.531 diameter 1.6 hole 1.6
via 2.356,5.031 diameter 1.6 hole 1.6
via 2.378,2.531 diameter 1.6 hole 1.6
via 2.4,0.031 diameter 1.6 hole 1.6
via 2.421,-2.468 diameter 1.6 hole 1.6
via 2.443,-4.968 diameter 1.6 hole 1.6
via 2.465,-7.468 diameter 1.6 hole 1.6
via 2.487,-9.968 diameter 1.6 hole 1.6
via -2.596,7.445 diameter 1.6 hole 1.6
via -2.53,4.946 diameter 1.6 hole 1.6
via -2.465,2.447 diameter 1.6 hole 1.6
via -2.399,-0.052 diameter 1.6 hole 1.6
via -2.334,-2.551 diameter 1.6 hole 1.6
via -2.268,-5.051 diameter 1.6 hole 1.6
via -2.203,-7.55 diameter 1.6 hole 1.6
via -2.137,-10.049 diameter 1.6 hole 1.6
via -2.072,-12.548 diameter 1.6 hole 1.6
via 2.509,-12.468 diameter 1.6 hole 1.6
via 11.867,-5.051 diameter 1.6 hole 1.6
via 17.231,9.771 diameter 1.6 hole 1.6
via 22.198,9.51 diameter 1.6 hole 1.6
via 27.16,9.163 diameter 1.6 hole 1.6
via 37.062,8.21 diameter 1.6 hole 1.6
via 17.122,7.273 diameter 1.6 hole 1.6
via 17.013,4.775 diameter 1.6 hole 1.6
via 16.904,2.278 diameter 1.6 hole 1.6
via 16.795,-0.22 diameter 1.6 hole 1.6
via 16.686,-2.717 diameter 1.6 hole 1.6
via 16.577,-5.215 diameter 1.6 hole 1.6
via 16.468,-7.713 diameter 1.6 hole 1.6
via 16.359,-10.21 diameter 1.6 hole 1.6
via 16.25,-12.708 diameter 1.6 hole 1.6
via 22.046,7.015 diameter 1.6 hole 1.6
via 21.893,4.52 diameter 1.6 hole 1.6
via 21.74,2.024 diameter 1.6 hole 1.6
via 21.588,-0.471 diameter 1.6 hole 1.6
via 21.435,-2.966 diameter 1.6 hole 1.6
via 21.283,-5.462 diameter 1.6 hole 1.6
via 21.13,-7.957 diameter 1.6 hole 1.6
via 20.977,-10.452 diameter 1.6 hole 1.6
via 20.825,-12.948 diameter 1.6 hole 1.6
via 26.768,4.179 diameter 1.6 hole 1.6
via 26.572,1.686 diameter 1.6 hole 1.6
via 26.376,-0.806 diameter 1.6 hole 1.6
via 26.18,-3.298 diameter 1.6 hole 1.6
via 25.983,-5.79 diameter 1.6 hole 1.6
via 25.787,-8.283 diameter 1.6 hole 1.6
via 25.591,-10.775 diameter 1.6 hole 1.6
via 25.395,-13.267 diameter 1.6 hole 1.6
via 31.876,6.241 diameter 1.6 hole 1.6
via 31.636,3.753 diameter 1.6 hole 1.6
via 31.397,1.264 diameter 1.6 hole 1.6
via 31.157,-1.224 diameter 1.6 hole 1.6
via 30.917,-3.713 diameter 1.6 hole 1.6
via 30.678,-6.201 diameter 1.6 hole 1.6
via 30.438,-8.69 diameter 1.6 hole 1.6
via 30.199,-11.178 diameter 1.6 hole 1.6
via 29.959,-13.667 diameter 1.6 hole 1.6
via 26.964,6.671 diameter 1.6 hole 1.6
via 32.115,8.73 diameter 1.6 hole 1.6
via 36.779,5.726 diameter 1.6 hole 1.6
via 36.496,3.242 diameter 1.6 hole 1.6
via 36.213,0.758 diameter 1.6 hole 1.6
via 35.93,-1.726 diameter 1.6 hole 1.6
via 35.647,-4.21 diameter 1.6 hole 1.6
via 35.081,-9.178 diameter 1.6 hole 1.6
via 34.798,-11.662 diameter 1.6 hole 1.6
via 34.515,-14.146 diameter 1.6 hole 1.6
via 41.999,7.604 diameter 1.6 hole 1.6
via 41.673,5.125 diameter 1.6 hole 1.6
via 41.347,2.646 diameter 1.6 hole 1.6
via 41.02,0.168 diameter 1.6 hole 1.6
via 40.694,-2.311 diameter 1.6 hole 1.6
via 40.368,-4.789 diameter 1.6 hole 1.6
via 40.041,-7.268 diameter 1.6 hole 1.6
via 39.715,-9.747 diameter 1.6 hole 1.6
via 39.389,-12.225 diameter 1.6 hole 1.6
via 39.063,-14.704 diameter 1.6 hole 1.6
via 46.925,6.911 diameter 1.6 hole 1.6
via 46.556,4.439 diameter 1.6 hole 1.6
via 46.186,1.966 diameter 1.6 hole 1.6
via 45.817,-0.506 diameter 1.6 hole 1.6
via 45.447,-2.979 diameter 1.6 hole 1.6
via 45.077,-5.451 diameter 1.6 hole 1.6
via 44.708,-7.924 diameter 1.6 hole 1.6
via 44.338,-10.396 diameter 1.6 hole 1.6
via 43.969,-12.869 diameter 1.6 hole 1.6
via 43.599,-15.341 diameter 1.6 hole 1.6
via 51.425,3.668 diameter 1.6 hole 1.6
via 51.013,1.202 diameter 1.6 hole 1.6
via 50.6,-1.264 diameter 1.6 hole 1.6
via 50.188,-3.73 diameter 1.6 hole 1.6
via 49.775,-6.195 diameter 1.6 hole 1.6
via 49.362,-8.661 diameter 1.6 hole 1.6
via 48.537,-13.592 diameter 1.6 hole 1.6
via 35.364,-6.694 diameter 1.6 hole 1.6
via 51.838,6.133 diameter 1.6 hole 1.6
via 48.124,-16.058 diameter 1.6 hole 1.6
via 48.95,-11.127 diameter 1.6 hole 1.6
via 56.737,5.27 diameter 1.6 hole 1.6
via 56.281,2.811 diameter 1.6 hole 1.6
via 55.825,0.353 diameter 1.6 hole 1.6
via 55.37,-2.105 diameter 1.6 hole 1.6
via 54.459,-7.021 diameter 1.6 hole 1.6
via 54.003,-9.479 diameter 1.6 hole 1.6
via 53.547,-11.937 diameter 1.6 hole 1.6
via 53.092,-14.396 diameter 1.6 hole 1.6
via 52.636,-16.854 diameter 1.6 hole 1.6
via 61.619,4.32 diameter 1.6 hole 1.6
via 61.121,1.871 diameter 1.6 hole 1.6
via 60.622,-0.579 diameter 1.6 hole 1.6
via 60.124,-3.029 diameter 1.6 hole 1.6
via 59.626,-5.479 diameter 1.6 hole 1.6
via 59.127,-7.929 diameter 1.6 hole 1.6
via 58.629,-10.378 diameter 1.6 hole 1.6
via 58.13,-12.828 diameter 1.6 hole 1.6
via 57.632,-15.278 diameter 1.6 hole 1.6
via 57.133,-17.728 diameter 1.6 hole 1.6
via 66.485,3.286 diameter 1.6 hole 1.6
via 65.944,0.846 diameter 1.6 hole 1.6
via 65.403,-1.595 diameter 1.6 hole 1.6
via 64.861,-4.036 diameter 1.6 hole 1.6
via 64.32,-6.477 diameter 1.6 hole 1.6
via 63.779,-8.917 diameter 1.6 hole 1.6
via 63.238,-11.358 diameter 1.6 hole 1.6
via 62.697,-13.799 diameter 1.6 hole 1.6
via 62.156,-16.24 diameter 1.6 hole 1.6
via 61.615,-18.68 diameter 1.6 hole 1.6
via 71.331,2.167 diameter 1.6 hole 1.6
via 70.748,-0.264 diameter 1.6 hole 1.6
via 70.164,-2.695 diameter 1.6 hole 1.6
via 69.581,-5.125 diameter 1.6 hole 1.6
via 68.997,-7.556 diameter 1.6 hole 1.6
via 68.413,-9.987 diameter 1.6 hole 1.6
via 67.83,-12.418 diameter 1.6 hole 1.6
via 66.079,-19.711 diameter 1.6 hole 1.6
via 54.914,-4.563 diameter 1.6 hole 1.6
via 67.246,-14.849 diameter 1.6 hole 1.6
via 66.662,-17.28 diameter 1.6 hole 1.6
via 76.158,0.964 diameter 1.6 hole 1.6
via 75.532,-1.456 diameter 1.6 hole 1.6
via 74.906,-3.877 diameter 1.6 hole 1.6
via 74.28,-6.297 diameter 1.6 hole 1.6
via 73.654,-8.718 diameter 1.6 hole 1.6
via 73.028,-11.138 diameter 1.6 hole 1.6
via 72.402,-13.558 diameter 1.6 hole 1.6
via 71.776,-15.979 diameter 1.6 hole 1.6
via 70.524,-20.819 diameter 1.6 hole 1.6
via 74.949,-22.005 diameter 1.6 hole 1.6
via 75.618,-19.596 diameter 1.6 hole 1.6
via 76.286,-17.187 diameter 1.6 hole 1.6
via 76.954,-14.778 diameter 1.6 hole 1.6
via 77.622,-12.369 diameter 1.6 hole 1.6
via 78.29,-9.96 diameter 1.6 hole 1.6
via 78.958,-7.551 diameter 1.6 hole 1.6
via 79.626,-5.142 diameter 1.6 hole 1.6
via 80.294,-2.733 diameter 1.6 hole 1.6
via 80.962,-0.323 diameter 1.6 hole 1.6
via 85.034,-4.092 diameter 1.6 hole 1.6
via 84.324,-6.489 diameter 1.6 hole 1.6
via 83.614,-8.886 diameter 1.6 hole 1.6
via 82.904,-11.283 diameter 1.6 hole 1.6
via 82.194,-13.68 diameter 1.6 hole 1.6
via 81.484,-16.077 diameter 1.6 hole 1.6
via 80.774,-18.474 diameter 1.6 hole 1.6
via 80.063,-20.871 diameter 1.6 hole 1.6
via 79.353,-23.268 diameter 1.6 hole 1.6
via 83.735,-24.607 diameter 1.6 hole 1.6
via 84.486,-22.223 diameter 1.6 hole 1.6
via 85.238,-19.839 diameter 1.6 hole 1.6
via 85.99,-17.455 diameter 1.6 hole 1.6
via 86.742,-15.07 diameter 1.6 hole 1.6
via 87.494,-12.686 diameter 1.6 hole 1.6
via 88.245,-10.302 diameter 1.6 hole 1.6
via 90.501,-3.149 diameter 1.6 hole 1.6
via 85.744,-1.694 diameter 1.6 hole 1.6
via 71.15,-18.399 diameter 1.6 hole 1.6
via 83.808,-38.826 diameter 2 hole 1
via 54.741,-29.487 diameter 2 hole 1
via 50.449,-28.653 diameter 2 hole 1
via 59.018,-30.396 diameter 2 hole 1
via -45.001,-27.418 diameter 2 hole 1
via 38.421,20.133 diameter 2 hole 1
via 63.812,15.099 diameter 2 hole 1
via 68.865,14.025 diameter 2 hole 1
via 58.832,16.577 diameter 2 hole 1
via -111.94,-34.276 diameter 2 hole 1
via -113.031,-32.026 diameter 2 hole 1
via -114.122,-29.777 diameter 2 hole 1
via -115.213,-27.527 diameter 2 hole 1
via -116.304,-25.278 diameter 2 hole 1
via -117.395,-23.029 diameter 2 hole 1
via -118.486,-20.779 diameter 2 hole 1
via -119.577,-18.53 diameter 2 hole 1
via -120.668,-16.281 diameter 2 hole 1
via -121.759,-14.031 diameter 2 hole 1
via -122.85,-11.782 diameter 2 hole 1
via -123.941,-9.533 diameter 2 hole 1
via 87.917,-40.24 diameter 2 hole 1
via 91.666,-41.068 diameter 2 hole 1
via 95.735,-42.62 diameter 2 hole 1
via 101.261,-36.208 diameter 2 hole 1
via 103.711,2.434 diameter 2 hole 1
via 108.537,0.666 diameter 2 hole 1
via 113.331,-1.186 diameter 2 hole 1
via 105.413,-37.928 diameter 2 hole 1
via -105.394,-47.772 diameter 2 hole 1
via -106.485,-45.522 diameter 2 hole 1
via -107.576,-43.273 diameter 2 hole 1
via -108.667,-41.024 diameter 2 hole 1
via -109.758,-38.774 diameter 2 hole 1
via -110.849,-36.525 diameter 2 hole 1
via -115.622,-1.28 diameter 2 hole 1
via -119.787,-3.151 diameter 2 hole 1
via -123.334,-4.805 diameter 2 hole 1
via 89.749,-5.533 diameter 1.6 hole 1.6
via 88.997,-7.918 diameter 1.6 hole 1.6
Top Layer:
  lines w2: -107.926,-9.393 -103.318,-0.485 ; -107.901,-2.876 -112.544,-11.4 -99.935,-39.72 -100.712,-49.97 -97.952,-55.855 ; -107.731,-9.853 -96.009,-37.468 -97.264,-48.385 -97.346,-49.519 -95.076,-54.529 ; -98.948,-4.687 -94.007,4.064 ; -98.769,-5.154 -88.018,-33.161 -90.052,-43.11 ; -98.687,1.828 -103.462,-7.002 -91.849,-35.745 -93.692,-48.444 -93.785,-49.576 -92.182,-53.241 ; -94.215,-2.917 -89.123,5.746 ; -94.044,-3.387 -83.955,-31.108 -85.991,-41.49 ; -84.209,7.342 -89.453,-1.231 -79.685,-29.596 -81.903,-39.941 ; -79.411,9.332 -84.506,-0.103 -75.236,-28.635 -77.953,-37.992 ; -74.303,10.276 -79.842,1.892 -71.071,-26.797 -73.805,-36.584 ; -69.781,-34.771 -66.866,-25.03 -75.135,3.808 -69.313,11.613 ; -65.578,-33.506 -62.494,-23.818 -70.258,5.16 -64.3,12.863 ; -61.353,-32.314 -58.1,-22.681 -65.358,6.427 -59.267,14.025 ; -57.108,-31.197 -53.8,-21.135 -60.549,8.096 -54.213,15.099 ; -52.959,-29.667 -49.362,-20.151 -55.599,9.194 -49.233,16.577 ; -48.669,-28.696 -45.002,-18.754 -50.726,10.695 -44.22,17.969 ; -45.001,-27.418 -40.523,-17.923 -45.732,11.621 -39.1,18.779 ; -41.215,-26.686 -36.03,-17.172 -40.723,12.459 -33.967,19.501 ; -36.875,-25.921 -31.525,-16.498 -35.7,13.21 -28.822,20.133 ; -32.522,-25.232 -27.008,-15.904 -30.665,13.873 -23.667,20.674 ; -28.093,-25.114 -22.378,-16.383 -25.514,13.453 -18.503,21.126 ; -23.728,-24.578 -17.905,-15.45 -20.519,14.436 -13.332,21.488 ; -19.402,-23.621 -13.407,-14.594 -15.5,15.333 -8.156,21.759 ; -14.972,-23.735 -8.86,-14.316 -10.43,15.643 -2.975,21.94 ; -10.585,-23.428 -4.309,-14.117 -5.356,15.864 2.208,22.03 ; -6.193,-23.198 0.244,-13.998 -0.279,15.997 7.391,22.03 ; -1.797,-23.045 4.799,-14.458 4.799,15.542 12.574,21.94 ; 2.6,-22.968 9.346,-14.498 9.869,15.497 17.754,21.759 ; 6.998,-22.968 13.891,-14.617 14.938,15.365 22.931,21.488 ; 11.396,-23.045 18.459,-14.316 20.029,15.643 28.102,21.126 ; 15.791,-23.198 23.006,-14.594 25.099,15.333 33.266,20.674 ; 20.153,-23.927 27.503,-15.45 30.118,14.436 38.421,20.133 ; 24.301,-23.986 31.925,-16.88 35.06,12.956 43.566,19.501 ; 28.905,-24.616 36.424,-17.393 40.081,12.384 48.699,18.779 ; 33.27,-25.075 40.984,-17.489 45.16,12.219 53.736,17.475 ; 37.627,-25.61 45.472,-18.159 50.165,11.471 58.832,16.577 ; 41.9,-26.715 49.861,-19.401 55.071,10.144 63.812,15.099 ; 46.226,-27.401 54.314,-20.226 60.039,9.223 68.865,14.025 ; 50.449,-28.653 58.545,-22.107 64.782,7.237 73.899,12.863 ; 54.741,-29.487 62.949,-23.084 69.698,6.147 78.912,11.613 ; 59.018,-30.396 67.336,-24.137 74.594,4.972 83.768,9.794 ; 63.277,-31.38 71.834,-24.783 79.598,4.194 88.726,8.373 ; 67.394,-32.921 76.052,-26.472 84.321,2.366 93.508,6.388 ; 71.609,-34.051 80.377,-27.753 89.149,0.936 98.404,4.797 ; 75.661,-35.733 84.371,-30.061 93.642,-1.53 103.711,2.434 ; 79.825,-37.006 88.633,-31.487 98.4,-3.122 108.537,0.666 ; 83.808,-38.826 92.87,-32.987 103.13,-4.797 113.331,-1.186 ; 87.917,-40.24 97.079,-34.561 ; 91.666,-41.068 101.261,-36.208 ; 95.735,-42.62 105.413,-37.928
Mid-Layer 1:
  lines w2: -107.901,-2.876 -98.769,-5.154 -88.018,-33.161 -77.953,-37.992 ; -107.584,-43.255 -99.476,-39.516 -90.052,-43.11 ; -106.49,-45.513 -101.959,-43.382 -101.245,-43.604 -90.413,-46.505 -87.415,-45.278 -85.991,-41.49 ; -105.394,-47.772 -103.407,-46.819 -91.225,-50.104 -90.243,-49.687 -84.81,-47.471 -81.903,-39.941 ; -103.318,-0.485 -94.215,-2.917 -83.955,-31.108 -73.805,-36.584 ; -98.687,1.828 -89.453,-1.231 -79.685,-29.596 -69.781,-34.771 ; -94.007,4.064 -84.661,0.373 -75.39,-28.159 -65.578,-33.506 ; -89.123,5.746 -79.842,1.892 -71.071,-26.797 -61.353,-32.314 ; -84.209,7.342 -75.135,3.808 -66.866,-25.03 -57.108,-31.197 ; -79.411,9.332 -70.129,4.677 ; -74.303,10.276 -65.358,6.427 -58.1,-22.681 -48.669,-28.696 ; -70.099,4.566 -62.494,-23.818 -52.959,-29.667 ; -69.313,11.613 -60.436,7.609 -53.688,-21.622 -45.001,-27.418 ; -64.3,12.863 -55.703,9.683 ; -59.267,14.025 -50.726,10.695 ; -55.599,9.194 -49.362,-20.151 ; -54.213,15.099 -45.732,11.621 ; -50.631,10.204 -44.906,-19.244 -36.875,-25.921 ; -49.258,-20.64 -41.215,-26.686 ; -49.233,16.577 -40.723,12.459 -36.03,-17.172 -28.093,-25.114 ; -45.645,11.128 -40.436,-18.416 -32.522,-25.232 ; -44.22,17.969 -35.7,13.21 -31.525,-16.498 -23.728,-24.578 ; -39.1,18.779 -30.665,13.873 -27.008,-15.904 -19.402,-23.621 ; -33.967,19.501 -25.618,14.448 -22.483,-15.388 -14.972,-23.735 ; -28.822,20.133 -20.563,14.934 -17.948,-14.951 -10.585,-23.428 ; -23.667,20.674 -15.5,15.333 -13.407,-14.594 -6.193,-23.198 ; -18.503,21.126 -10.43,15.643 -8.86,-14.316 -1.797,-23.045 ; -13.332,21.488 -5.339,15.365 -4.292,-14.617 2.6,-22.968 ; -8.156,21.759 -0.271,15.497 0.253,-14.498 6.998,-22.968 ; -2.975,21.94 4.799,16.042 4.799,-13.958 11.396,-23.045 ; 2.208,22.03 9.878,15.997 9.354,-13.998 15.791,-23.198 ; 7.391,22.03 14.955,15.864 13.908,-14.117 20.153,-23.927 ; 12.574,21.94 20.003,15.144 18.433,-14.815 24.351,-23.954 ; 17.754,21.759 25.064,14.834 22.971,-15.093 28.905,-24.616 ; 22.931,21.488 30.075,13.938 27.46,-15.948 33.27,-25.075 ; 28.102,21.126 35.113,13.453 31.977,-16.383 37.627,-25.61 ; 33.266,20.674 40.141,12.88 36.485,-16.896 41.9,-26.715 ; 38.421,20.133 45.16,12.219 40.984,-17.489 46.226,-27.401 ; 43.566,19.501 50.087,10.977 45.394,-18.653 50.449,-28.653 ; 48.699,18.779 55.071,10.144 49.948,-18.908 54.741,-29.487 ; 53.736,17.475 60.039,9.223 54.314,-20.226 59.018,-30.396 ; 58.832,16.577 64.886,7.726 58.649,-21.618 63.277,-31.38 ; 63.812,15.099 69.81,6.635 63.062,-22.596 67.394,-32.921 ; 68.865,14.025 74.715,5.457 67.457,-23.652 71.609,-34.051 ; 74.235,12.664 79.598,4.194 71.834,-24.783 75.661,-35.733 ; 78.912,11.613 84.321,2.366 76.052,-26.472 79.825,-37.006 ; 83.768,9.794 89.002,0.457 80.377,-27.753 83.808,-38.826 ; 87.917,-40.24 84.526,-29.586 93.796,-1.054 88.726,8.373 ; 91.666,-41.068 88.633,-31.487 98.4,-3.122 93.508,6.388 ; 95.735,-42.62 92.87,-32.987 103.13,-4.797 98.404,4.797 ; 97.079,-34.561 107.83,-6.554 ; 101.261,-36.208 112.499,-8.393 ; 103.711,2.434 107.83,-6.554 ; 105.413,-37.928 117.135,-10.313 ; 108.537,0.666 112.499,-8.393 ; 113.331,-1.186 117.135,-10.313
Mid-Layer 2:
  lines w2: -107.901,-2.876 -112.544,-11.4 -99.935,-39.72 -107.584,-43.256 ; -106.494,-45.501 -96.882,-41.108 -96.009,-37.468 -107.926,-9.393 -103.318,-0.485 ; -105.406,-47.745 -93.353,-42.316 -91.849,-35.745 -103.462,-7.002 -98.687,1.828 ; -98.948,-4.687 -94.007,4.064 ; -98.769,-5.154 -88.018,-33.161 -90.052,-43.11 ; -94.215,-2.917 -89.123,5.746 ; -94.044,-3.387 -83.955,-31.108 -85.991,-41.49 ; -84.209,7.342 -89.453,-1.231 -79.685,-29.596 -81.903,-39.941 ; -79.411,9.332 -84.506,-0.103 -75.236,-28.635 -77.953,-37.992 ; -74.303,10.276 -79.842,1.892 -71.071,-26.797 -73.805,-36.584 ; -69.781,-34.771 -66.866,-25.03 -75.135,3.808 -69.313,11.613 ; -65.578,-33.506 -62.494,-23.818 -70.258,5.16 -64.3,12.863 ; -61.353,-32.314 -58.1,-22.681 -65.358,6.427 -59.267,14.025 ; -57.108,-31.197 -53.8,-21.135 -60.549,8.096 -54.213,15.099 ; -52.959,-29.667 -49.362,-20.151 -55.599,9.194 -49.233,16.577 ; -48.669,-28.696 -45.002,-18.754 -50.726,10.695 -44.22,17.969 ; -45.001,-27.418 -40.523,-17.923 -45.732,11.621 -39.1,18.779 ; -41.215,-26.686 -36.03,-17.172 -40.723,12.459 -33.967,19.501 ; -36.875,-25.921 -31.525,-16.498 -35.7,13.21 -28.822,20.133 ; -32.522,-25.232 -27.008,-15.904 -30.665,13.873 -23.667,20.674 ; -28.093,-25.114 -22.378,-16.383 -25.514,13.453 -18.503,21.126 ; -23.728,-24.578 -17.905,-15.45 -20.519,14.436 -13.332,21.488 ; -19.402,-23.621 -13.407,-14.594 -15.5,15.333 -8.156,21.759 ; -14.972,-23.735 -8.86,-14.316 -10.43,15.643 -2.975,21.94 ; -10.585,-23.428 -4.309,-14.117 -5.356,15.864 2.208,22.03 ; -6.193,-23.198 0.244,-13.998 -0.279,15.997 7.391,22.03 ; -1.797,-23.045 4.799,-14.458 4.799,15.542 12.574,21.94 ; 2.6,-22.968 9.346,-14.498 9.869,15.497 17.754,21.759 ; 6.998,-22.968 13.891,-14.617 14.938,15.365 22.931,21.488 ; 11.396,-23.045 18.459,-14.316 20.029,15.643 28.102,21.126 ; 15.791,-23.198 23.006,-14.594 25.099,15.333 33.266,20.674 ; 20.153,-23.927 27.503,-15.45 30.118,14.436 38.421,20.133 ; 24.301,-23.986 31.925,-16.88 35.06,12.956 43.566,19.501 ; 28.905,-24.616 36.424,-17.393 40.081,12.384 48.699,18.779 ; 33.27,-25.075 40.984,-17.489 45.16,12.219 53.736,17.475 ; 37.627,-25.61 45.472,-18.159 50.165,11.471 58.832,16.577 ; 41.9,-26.715 49.861,-19.401 55.071,10.144 63.812,15.099 ; 46.226,-27.401 54.314,-20.226 60.039,9.223 68.865,14.025 ; 50.449,-28.653 58.545,-22.107 64.782,7.237 73.899,12.863 ; 54.741,-29.487 62.949,-23.084 69.698,6.147 78.912,11.613 ; 59.018,-30.396 67.336,-24.137 74.594,4.972 83.768,9.794 ; 63.277,-31.38 71.834,-24.783 79.598,4.194 88.726,8.373 ; 67.394,-32.921 76.052,-26.472 84.321,2.366 93.508,6.388 ; 71.609,-34.051 80.377,-27.753 89.149,0.936 98.404,4.797 ; 75.661,-35.733 84.371,-30.061 93.642,-1.53 103.711,2.434 ; 79.825,-37.006 88.633,-31.487 98.4,-3.122 108.537,0.666 ; 83.808,-38.826 92.87,-32.987 103.13,-4.797 113.331,-1.186 ; 87.917,-40.24 97.079,-34.561 ; 91.666,-41.068 101.261,-36.208 ; 95.735,-42.62 105.413,-37.928
Mid-Layer 3:
  lines w2: -110.849,-36.525 -102.986,-32.869 -100.139,-39.263 -90.052,-43.11 ; -109.758,-38.774 -104.589,-36.335 -101.252,-43.573 -90.413,-46.505 -87.415,-45.278 -85.991,-41.49 ; -108.667,-41.024 -106.12,-39.802 -102.701,-47.009 -91.225,-50.104 ; -107.901,-2.876 -98.769,-5.154 -88.018,-33.161 -77.953,-37.992 ; -103.318,-0.485 -94.215,-2.917 -83.955,-31.108 -73.805,-36.584 ; -98.687,1.828 -89.453,-1.231 -79.685,-29.596 -69.781,-34.771 ; -94.007,4.064 -84.661,0.373 -75.39,-28.159 -65.578,-33.506 ; -91.23,-50.091 -85.306,-47.667 -84.81,-47.471 -81.903,-39.941 ; -89.123,5.746 -79.842,1.892 -71.071,-26.797 -61.353,-32.314 ; -84.209,7.342 -75.135,3.808 -66.866,-25.03 -57.108,-31.197 ; -79.411,9.332 -70.129,4.677 ; -74.303,10.276 -65.358,6.427 -58.1,-22.681 -48.669,-28.696 ; -70.099,4.566 -62.494,-23.818 -52.959,-29.667 ; -69.313,11.613 -60.436,7.609 -53.688,-21.622 -45.001,-27.418 ; -64.3,12.863 -55.703,9.683 ; -59.267,14.025 -50.726,10.695 ; -55.599,9.194 -49.362,-20.151 ; -54.213,15.099 -45.732,11.621 ; -50.631,10.204 -44.906,-19.244 -36.875,-25.921 ; -49.258,-20.64 -41.215,-26.686 ; -49.233,16.577 -40.723,12.459 -36.03,-17.172 -28.093,-25.114 ; -45.645,11.128 -40.436,-18.416 -32.522,-25.232 ; -44.22,17.969 -35.7,13.21 -31.525,-16.498 -23.728,-24.578 ; -39.1,18.779 -30.665,13.873 -27.008,-15.904 -19.402,-23.621 ; -33.967,19.501 -25.618,14.448 -22.483,-15.388 -14.972,-23.735 ; -28.822,20.133 -20.563,14.934 -17.948,-14.951 -10.585,-23.428 ; -23.667,20.674 -15.5,15.333 -13.407,-14.594 -6.193,-23.198 ; -18.503,21.126 -10.43,15.643 -8.86,-14.316 -1.797,-23.045 ; -13.332,21.488 -5.339,15.365 -4.292,-14.617 2.6,-22.968 ; -8.156,21.759 -0.271,15.497 0.253,-14.498 6.998,-22.968 ; -2.975,21.94 4.799,16.042 4.799,-13.958 11.396,-23.045 ; 2.208,22.03 9.878,15.997 9.354,-13.998 15.791,-23.198 ; 7.391,22.03 14.955,15.864 13.908,-14.117 20.153,-23.927 ; 12.574,21.94 20.003,15.144 18.433,-14.815 24.351,-23.954 ; 17.754,21.759 25.064,14.834 22.971,-15.093 28.905,-24.616 ; 22.931,21.488 30.075,13.938 27.46,-15.948 33.27,-25.075 ; 28.102,21.126 35.113,13.453 31.977,-16.383 37.627,-25.61 ; 33.266,20.674 40.141,12.88 36.485,-16.896 41.9,-26.715 ; 38.421,20.133 45.16,12.219 40.984,-17.489 46.226,-27.401 ; 43.566,19.501 50.087,10.977 45.394,-18.653 50.449,-28.653 ; 48.699,18.779 55.071,10.144 49.948,-18.908 54.741,-29.487 ; 53.736,17.475 60.039,9.223 54.314,-20.226 59.018,-30.396 ; 58.832,16.577 64.886,7.726 58.649,-21.618 63.277,-31.38 ; 63.812,15.099 69.81,6.635 63.062,-22.596 67.394,-32.921 ; 68.865,14.025 74.715,5.457 67.457,-23.652 71.609,-34.051 ; 74.235,12.664 79.598,4.194 71.834,-24.783 75.661,-35.733 ; 78.912,11.613 84.321,2.366 76.052,-26.472 79.825,-37.006 ; 83.768,9.794 89.002,0.457 80.377,-27.753 83.808,-38.826 ; 87.917,-40.24 84.526,-29.586 93.796,-1.054 88.726,8.373 ; 91.666,-41.068 88.633,-31.487 98.4,-3.122 93.508,6.388 ; 95.735,-42.62 92.87,-32.987 103.13,-4.797 98.404,4.797 ; 97.079,-34.561 107.83,-6.554 103.711,2.434 ; 101.261,-36.208 112.311,-8.857 112.499,-8.393 108.537,0.666 ; 105.413,-37.928 117.135,-10.313 113.331,-1.186
Mid-Layer 4:
  lines w2: -110.849,-36.525 -102.986,-32.869 -112.544,-11.4 -107.901,-2.876 ; -109.758,-38.774 -97.767,-33.326 -107.926,-9.393 -103.318,-0.485 ; -108.667,-41.024 -92.598,-33.89 -103.462,-7.002 -98.687,1.828 ; -98.948,-4.687 -94.007,4.064 ; -98.769,-5.154 -88.018,-33.161 -90.052,-43.11 ; -94.215,-2.917 -89.123,5.746 ; -94.044,-3.387 -83.955,-31.108 -85.991,-41.49 ; -84.209,7.342 -89.453,-1.231 -79.685,-29.596 -81.903,-39.941 ; -79.411,9.332 -84.506,-0.103 -75.236,-28.635 -77.953,-37.992 ; -74.303,10.276 -79.842,1.892 -71.071,-26.797 -73.805,-36.584 ; -69.781,-34.771 -66.866,-25.03 -75.135,3.808 -69.313,11.613 ; -65.578,-33.506 -62.494,-23.818 -70.258,5.16 -64.3,12.863 ; -61.353,-32.314 -58.1,-22.681 -65.358,6.427 -59.267,14.025 ; -57.108,-31.197 -53.8,-21.135 -60.549,8.096 -54.213,15.099 ; -52.959,-29.667 -49.362,-20.151 -55.599,9.194 -49.233,16.577 ; -48.669,-28.696 -45.002,-18.754 -50.726,10.695 -44.22,17.969 ; -45.001,-27.418 -40.523,-17.923 -45.732,11.621 -39.1,18.779 ; -41.215,-26.686 -36.03,-17.172 -40.723,12.459 -33.967,19.501 ; -36.875,-25.921 -31.525,-16.498 -35.7,13.21 -28.822,20.133 ; -32.522,-25.232 -27.008,-15.904 -30.665,13.873 -23.667,20.674 ; -28.093,-25.114 -22.378,-16.383 -25.514,13.453 -18.503,21.126 ; -23.728,-24.578 -17.905,-15.45 -20.519,14.436 -13.332,21.488 ; -19.402,-23.621 -13.407,-14.594 -15.5,15.333 -8.156,21.759 ; -14.972,-23.735 -8.86,-14.316 -10.43,15.643 -2.975,21.94 ; -10.585,-23.428 -4.309,-14.117 -5.356,15.864 2.208,22.03 ; -6.193,-23.198 0.244,-13.998 -0.279,15.997 7.391,22.03 ; -1.797,-23.045 4.799,-14.458 4.799,15.542 12.574,21.94 ; 2.6,-22.968 9.346,-14.498 9.869,15.497 17.754,21.759 ; 6.998,-22.968 13.891,-14.617 14.938,15.365 22.931,21.488 ; 11.396,-23.045 18.459,-14.316 20.029,15.643 28.102,21.126 ; 15.791,-23.198 23.006,-14.594 25.099,15.333 33.266,20.674 ; 20.153,-23.927 27.503,-15.45 30.118,14.436 38.421,20.133 ; 24.301,-23.986 31.925,-16.88 35.06,12.956 43.566,19.501 ; 28.905,-24.616 36.424,-17.393 40.081,12.384 48.699,18.779 ; 33.27,-25.075 40.984,-17.489 45.16,12.219 53.736,17.475 ; 37.627,-25.61 45.472,-18.159 50.165,11.471 58.832,16.577 ; 41.9,-26.715 49.861,-19.401 55.071,10.144 63.812,15.099 ; 46.226,-27.401 54.314,-20.226 60.039,9.223 68.865,14.025 ; 50.449,-28.653 58.545,-22.107 64.782,7.237 73.899,12.863 ; 54.741,-29.487 62.949,-23.084 69.698,6.147 78.912,11.613 ; 59.018,-30.396 67.336,-24.137 74.594,4.972 83.768,9.794 ; 63.277,-31.38 71.834,-24.783 79.598,4.194 88.726,8.373 ; 67.394,-32.921 76.052,-26.472 84.321,2.366 93.508,6.388 ; 71.609,-34.051 80.377,-27.753 89.149,0.936 98.404,4.797 ; 75.661,-35.733 84.371,-30.061 93.642,-1.53 103.711,2.434 ; 79.825,-37.006 88.633,-31.487 98.4,-3.122 108.537,0.666 ; 83.808,-38.826 92.87,-32.987 103.13,-4.797 113.331,-1.186 ; 87.917,-40.24 97.079,-34.561 ; 91.666,-41.068 101.261,-36.208 ; 95.735,-42.62 105.413,-37.928
Mid-Layer 5:
  lines w2: -114.122,-29.777 -106.036,-26.017 -100.139,-39.263 -90.052,-43.11 ; -113.031,-32.026 -107.703,-29.514 -101.245,-43.604 -90.413,-46.505 -87.415,-45.278 -85.991,-41.49 ; -111.94,-34.276 -109.308,-33.016 -102.696,-47.036 -91.225,-50.104 -84.81,-47.471 -81.903,-39.941 ; -107.901,-2.876 -98.769,-5.154 -88.018,-33.161 -77.953,-37.992 ; -103.318,-0.485 -94.215,-2.917 -83.955,-31.108 -73.805,-36.584 ; -98.687,1.828 -89.453,-1.231 -79.685,-29.596 -69.781,-34.771 ; -94.007,4.064 -84.661,0.373 -75.39,-28.159 -65.578,-33.506 ; -89.123,5.746 -79.842,1.892 -71.071,-26.797 -61.353,-32.314 ; -84.209,7.342 -75.135,3.808 -66.866,-25.03 -57.108,-31.197 ; -79.411,9.332 -70.129,4.677 ; -74.303,10.276 -65.358,6.427 -58.1,-22.681 -48.669,-28.696 ; -70.099,4.566 -62.494,-23.818 -52.959,-29.667 ; -69.313,11.613 -60.436,7.609 -53.688,-21.622 -45.001,-27.418 ; -64.3,12.863 -55.703,9.683 ; -59.267,14.025 -50.726,10.695 ; -55.599,9.194 -49.362,-20.151 ; -54.213,15.099 -45.732,11.621 ; -50.631,10.204 -44.906,-19.244 -36.875,-25.921 ; -49.258,-20.64 -41.215,-26.686 ; -49.233,16.577 -40.723,12.459 -36.03,-17.172 -28.093,-25.114 ; -45.645,11.128 -40.436,-18.416 -32.522,-25.232 ; -44.22,17.969 -35.7,13.21 -31.525,-16.498 -23.728,-24.578 ; -39.1,18.779 -30.665,13.873 -27.008,-15.904 -19.402,-23.621 ; -33.967,19.501 -25.618,14.448 -22.483,-15.388 -14.972,-23.735 ; -28.822,20.133 -20.563,14.934 -17.948,-14.951 -10.585,-23.428 ; -23.667,20.674 -15.5,15.333 -13.407,-14.594 -6.193,-23.198 ; -18.503,21.126 -10.43,15.643 -8.86,-14.316 -1.797,-23.045 ; -13.332,21.488 -5.339,15.365 -4.292,-14.617 2.6,-22.968 ; -8.156,21.759 -0.271,15.497 0.253,-14.498 6.998,-22.968 ; -2.975,21.94 4.799,16.042 4.799,-13.958 11.396,-23.045 ; 2.208,22.03 9.878,15.997 9.354,-13.998 15.791,-23.198 ; 7.391,22.03 14.955,15.864 13.908,-14.117 20.153,-23.927 ; 12.574,21.94 20.003,15.144 18.433,-14.815 24.351,-23.954 ; 17.754,21.759 25.064,14.834 22.971,-15.093 28.905,-24.616 ; 22.931,21.488 30.075,13.938 27.46,-15.948 33.27,-25.075 ; 28.102,21.126 35.113,13.453 31.977,-16.383 37.627,-25.61 ; 33.266,20.674 40.141,12.88 36.485,-16.896 41.9,-26.715 ; 38.421,20.133 45.16,12.219 40.984,-17.489 46.226,-27.401 ; 43.566,19.501 50.087,10.977 45.394,-18.653 50.449,-28.653 ; 48.699,18.779 55.071,10.144 49.948,-18.908 54.741,-29.487 ; 53.736,17.475 60.039,9.223 54.314,-20.226 59.018,-30.396 ; 58.832,16.577 64.886,7.726 58.649,-21.618 63.277,-31.38 ; 63.812,15.099 69.81,6.635 63.062,-22.596 67.394,-32.921 ; 68.865,14.025 74.715,5.457 67.457,-23.652 71.609,-34.051 ; 74.235,12.664 79.598,4.194 71.834,-24.783 75.661,-35.733 ; 78.912,11.613 84.321,2.366 76.052,-26.472 79.825,-37.006 ; 83.768,9.794 89.002,0.457 80.377,-27.753 83.808,-38.826 ; 87.917,-40.24 84.526,-29.586 93.796,-1.054 88.726,8.373 ; 91.666,-41.068 88.633,-31.487 98.4,-3.122 93.508,6.388 ; 95.735,-42.62 92.87,-32.987 103.13,-4.797 98.404,4.797 ; 97.079,-34.561 107.83,-6.554 103.711,2.434 ; 101.261,-36.208 112.499,-8.393 108.537,0.666 ; 105.413,-37.928 117.135,-10.313 113.331,-1.186
Mid-Layer 6:
  lines w2: -114.122,-29.777 -106.036,-26.017 -112.544,-11.4 -107.901,-2.876 ; -113.031,-32.026 -100.698,-26.422 ; -111.94,-34.276 -95.408,-26.937 -103.462,-7.002 -98.687,1.828 ; -103.318,-0.485 -107.926,-9.393 -100.893,-25.962 ; -98.948,-4.687 -94.007,4.064 ; -98.769,-5.154 -88.018,-33.161 -90.052,-43.11 ; -94.215,-2.917 -89.123,5.746 ; -94.044,-3.387 -83.955,-31.108 -85.991,-41.49 ; -84.209,7.342 -89.453,-1.231 -79.685,-29.596 -81.903,-39.941 ; -79.411,9.332 -84.506,-0.103 -75.236,-28.635 -77.953,-37.992 ; -74.303,10.276 -79.842,1.892 -71.071,-26.797 -73.805,-36.584 ; -69.781,-34.771 -66.866,-25.03 -75.135,3.808 -69.313,11.613 ; -65.578,-33.506 -62.494,-23.818 -70.258,5.16 -64.3,12.863 ; -61.353,-32.314 -58.1,-22.681 -65.358,6.427 -59.267,14.025 ; -57.108,-31.197 -53.8,-21.135 -60.549,8.096 -54.213,15.099 ; -52.959,-29.667 -49.362,-20.151 -55.599,9.194 -49.233,16.577 ; -48.669,-28.696 -45.002,-18.754 -50.726,10.695 -44.22,17.969 ; -45.001,-27.418 -40.523,-17.923 -45.732,11.621 -39.1,18.779 ; -41.215,-26.686 -36.03,-17.172 -40.723,12.459 -33.967,19.501 ; -36.875,-25.921 -31.525,-16.498 -35.7,13.21 -28.822,20.133 ; -32.522,-25.232 -27.008,-15.904 -30.665,13.873 -23.667,20.674 ; -28.093,-25.114 -22.378,-16.383 -25.514,13.453 -18.503,21.126 ; -23.728,-24.578 -17.905,-15.45 -20.519,14.436 -13.332,21.488 ; -19.402,-23.621 -13.407,-14.594 -15.5,15.333 -8.156,21.759 ; -14.972,-23.735 -8.86,-14.316 -10.43,15.643 -2.975,21.94 ; -10.585,-23.428 -4.309,-14.117 -5.356,15.864 2.208,22.03 ; -6.193,-23.198 0.244,-13.998 -0.279,15.997 7.391,22.03 ; -1.797,-23.045 4.799,-14.458 4.799,15.542 12.574,21.94 ; 2.6,-22.968 9.346,-14.498 9.869,15.497 17.754,21.759 ; 6.998,-22.968 13.891,-14.617 14.938,15.365 22.931,21.488 ; 11.396,-23.045 18.459,-14.316 20.029,15.643 28.102,21.126 ; 15.791,-23.198 23.006,-14.594 25.099,15.333 33.266,20.674 ; 20.153,-23.927 27.503,-15.45 30.118,14.436 38.421,20.133 ; 24.301,-23.986 31.925,-16.88 35.06,12.956 43.566,19.501 ; 28.905,-24.616 36.424,-17.393 40.081,12.384 48.699,18.779 ; 33.27,-25.075 40.984,-17.489 45.16,12.219 53.736,17.475 ; 37.627,-25.61 45.472,-18.159 50.165,11.471 58.832,16.577 ; 41.9,-26.715 49.861,-19.401 55.071,10.144 63.812,15.099 ; 46.226,-27.401 54.314,-20.226 60.039,9.223 68.865,14.025 ; 50.449,-28.653 58.545,-22.107 64.782,7.237 73.899,12.863 ; 54.741,-29.487 62.949,-23.084 69.698,6.147 78.912,11.613 ; 59.018,-30.396 67.336,-24.137 74.594,4.972 83.768,9.794 ; 63.277,-31.38 71.834,-24.783 79.598,4.194 88.726,8.373 ; 67.394,-32.921 76.052,-26.472 84.321,2.366 93.508,6.388 ; 71.609,-34.051 80.377,-27.753 89.149,0.936 98.404,4.797 ; 75.661,-35.733 84.371,-30.061 93.642,-1.53 103.711,2.434 ; 79.825,-37.006 88.633,-31.487 98.4,-3.122 108.537,0.666 ; 83.808,-38.826 92.87,-32.987 103.13,-4.797 113.331,-1.186 ; 87.917,-40.24 97.079,-34.561 ; 91.666,-41.068 101.261,-36.208 ; 95.735,-42.62 105.413,-37.928
Mid-Layer 7:
  lines w2: -117.395,-23.029 -109.087,-19.166 -100.139,-39.263 -90.052,-43.11 ; -116.304,-25.278 -110.829,-22.696 -101.245,-43.604 -90.413,-46.505 -87.415,-45.278 -85.991,-41.49 ; -115.213,-27.527 -112.507,-26.233 -102.696,-47.036 -91.225,-50.104 -84.81,-47.471 -81.903,-39.941 ; -107.901,-2.876 -98.769,-5.154 -88.018,-33.161 -77.953,-37.992 ; -103.318,-0.485 -94.215,-2.917 -83.955,-31.108 -73.805,-36.584 ; -98.687,1.828 -89.453,-1.231 -79.685,-29.596 -69.781,-34.771 ; -94.007,4.064 -84.661,0.373 -75.39,-28.159 -65.578,-33.506 ; -89.123,5.746 -79.842,1.892 -71.071,-26.797 -61.353,-32.314 ; -84.209,7.342 -75.135,3.808 -66.866,-25.03 -57.108,-31.197 ; -79.411,9.332 -70.129,4.677 ; -74.303,10.276 -65.358,6.427 -58.1,-22.681 -48.669,-28.696 ; -70.099,4.566 -62.494,-23.818 -52.959,-29.667 ; -69.313,11.613 -60.436,7.609 -53.688,-21.622 -45.001,-27.418 ; -64.3,12.863 -55.703,9.683 ; -59.267,14.025 -50.726,10.695 ; -55.599,9.194 -49.362,-20.151 ; -54.213,15.099 -45.732,11.621 ; -50.631,10.204 -44.906,-19.244 -36.875,-25.921 ; -49.258,-20.64 -41.215,-26.686 ; -49.233,16.577 -40.723,12.459 -36.03,-17.172 -28.093,-25.114 ; -45.645,11.128 -40.436,-18.416 -32.522,-25.232 ; -44.22,17.969 -35.7,13.21 -31.525,-16.498 -23.728,-24.578 ; -39.1,18.779 -30.665,13.873 -27.008,-15.904 -19.402,-23.621 ; -33.967,19.501 -25.618,14.448 -22.483,-15.388 -14.972,-23.735 ; -28.822,20.133 -20.563,14.934 -17.948,-14.951 -10.585,-23.428 ; -23.667,20.674 -15.5,15.333 -13.407,-14.594 -6.193,-23.198 ; -18.503,21.126 -10.43,15.643 -8.86,-14.316 -1.797,-23.045 ; -13.332,21.488 -5.339,15.365 -4.292,-14.617 2.6,-22.968 ; -8.156,21.759 -0.271,15.497 0.253,-14.498 6.998,-22.968 ; -2.975,21.94 4.799,16.042 4.799,-13.958 11.396,-23.045 ; 2.208,22.03 9.878,15.997 9.354,-13.998 15.791,-23.198 ; 7.391,22.03 14.955,15.864 13.908,-14.117 20.153,-23.927 ; 12.574,21.94 20.003,15.144 18.433,-14.815 24.351,-23.954 ; 17.754,21.759 25.064,14.834 22.971,-15.093 28.905,-24.616 ; 22.931,21.488 30.075,13.938 27.46,-15.948 33.27,-25.075 ; 28.102,21.126 35.113,13.453 31.977,-16.383 37.627,-25.61 ; 33.266,20.674 40.141,12.88 36.485,-16.896 41.9,-26.715 ; 38.421,20.133 45.16,12.219 40.984,-17.489 46.226,-27.401 ; 43.566,19.501 50.087,10.977 45.394,-18.653 50.449,-28.653 ; 48.699,18.779 55.071,10.144 49.948,-18.908 54.741,-29.487 ; 53.736,17.475 60.039,9.223 54.314,-20.226 59.018,-30.396 ; 58.832,16.577 64.886,7.726 58.649,-21.618 63.277,-31.38 ; 63.812,15.099 69.81,6.635 63.062,-22.596 67.394,-32.921 ; 68.865,14.025 74.715,5.457 67.457,-23.652 71.609,-34.051 ; 74.235,12.664 79.598,4.194 71.834,-24.783 75.661,-35.733 ; 78.912,11.613 84.321,2.366 76.052,-26.472 79.825,-37.006 ; 83.768,9.794 89.002,0.457 80.377,-27.753 83.808,-38.826 ; 87.917,-40.24 84.526,-29.586 93.796,-1.054 88.726,8.373 ; 91.666,-41.068 88.633,-31.487 98.4,-3.122 93.508,6.388 ; 95.735,-42.62 92.87,-32.987 103.13,-4.797 98.404,4.797 ; 97.079,-34.561 107.83,-6.554 103.711,2.434 ; 101.261,-36.208 112.499,-8.393 108.537,0.666 ; 105.413,-37.928 117.135,-10.313 113.331,-1.186
Mid-Layer 8:
  lines w2: -117.395,-23.029 -109.087,-19.166 -112.544,-11.4 -107.901,-2.876 ; -116.304,-25.278 -103.628,-19.518 -107.926,-9.393 -103.318,-0.485 ; -115.213,-27.527 -98.217,-19.983 -100.278,-14.883 -103.462,-7.002 -98.687,1.828 ; -98.948,-4.687 -94.007,4.064 ; -98.769,-5.154 -88.018,-33.161 -90.052,-43.11 ; -94.215,-2.917 -89.123,5.746 ; -94.044,-3.387 -83.955,-31.108 -85.991,-41.49 ; -84.209,7.342 -89.453,-1.231 -79.685,-29.596 -81.903,-39.941 ; -79.411,9.332 -84.506,-0.103 -75.236,-28.635 -77.953,-37.992 ; -74.303,10.276 -79.842,1.892 -71.071,-26.797 -73.805,-36.584 ; -69.781,-34.771 -66.866,-25.03 -75.135,3.808 -69.313,11.613 ; -65.578,-33.506 -62.494,-23.818 -70.258,5.16 -64.3,12.863 ; -61.353,-32.314 -58.1,-22.681 -65.358,6.427 -59.267,14.025 ; -57.108,-31.197 -53.8,-21.135 -60.549,8.096 -54.213,15.099 ; -52.959,-29.667 -49.362,-20.151 -55.599,9.194 -49.233,16.577 ; -48.669,-28.696 -45.002,-18.754 -50.726,10.695 -44.22,17.969 ; -45.001,-27.418 -40.523,-17.923 -45.732,11.621 -39.1,18.779 ; -41.215,-26.686 -36.03,-17.172 -40.723,12.459 -33.967,19.501 ; -36.875,-25.921 -31.525,-16.498 -35.7,13.21 -28.822,20.133 ; -32.522,-25.232 -27.008,-15.904 -30.665,13.873 -23.667,20.674 ; -28.093,-25.114 -22.378,-16.383 -25.514,13.453 -18.503,21.126 ; -23.728,-24.578 -17.905,-15.45 -20.519,14.436 -13.332,21.488 ; -19.402,-23.621 -13.407,-14.594 -15.5,15.333 -8.156,21.759 ; -14.972,-23.735 -8.86,-14.316 -10.43,15.643 -2.975,21.94 ; -10.585,-23.428 -4.309,-14.117 -5.356,15.864 2.208,22.03 ; -6.193,-23.198 0.244,-13.998 -0.279,15.997 7.391,22.03 ; -1.797,-23.045 4.799,-14.458 4.799,15.542 12.574,21.94 ; 2.6,-22.968 9.346,-14.498 9.869,15.497 17.754,21.759 ; 6.998,-22.968 13.891,-14.617 14.938,15.365 22.931,21.488 ; 11.396,-23.045 18.459,-14.316 20.029,15.643 28.102,21.126 ; 15.791,-23.198 23.006,-14.594 25.099,15.333 33.266,20.674 ; 20.153,-23.927 27.503,-15.45 30.118,14.436 38.421,20.133 ; 24.301,-23.986 31.925,-16.88 35.06,12.956 43.566,19.501 ; 28.905,-24.616 36.424,-17.393 40.081,12.384 48.699,18.779 ; 33.27,-25.075 40.984,-17.489 45.16,12.219 53.736,17.475 ; 37.627,-25.61 45.472,-18.159 50.165,11.471 58.832,16.577 ; 41.9,-26.715 49.861,-19.401 55.071,10.144 63.812,15.099 ; 46.226,-27.401 54.314,-20.226 60.039,9.223 68.865,14.025 ; 50.449,-28.653 58.545,-22.107 64.782,7.237 73.899,12.863 ; 54.741,-29.487 62.949,-23.084 69.698,6.147 78.912,11.613 ; 59.018,-30.396 67.336,-24.137 74.594,4.972 83.768,9.794 ; 63.277,-31.38 71.834,-24.783 79.598,4.194 88.726,8.373 ; 67.394,-32.921 76.052,-26.472 84.321,2.366 93.508,6.388 ; 71.609,-34.051 80.377,-27.753 89.149,0.936 98.404,4.797 ; 75.661,-35.733 84.371,-30.061 93.642,-1.53 103.711,2.434 ; 79.825,-37.006 88.633,-31.487 98.4,-3.122 108.537,0.666 ; 83.808,-38.826 92.87,-32.987 103.13,-4.797 113.331,-1.186 ; 87.917,-40.24 97.079,-34.561 ; 91.666,-41.068 101.261,-36.208 ; 95.735,-42.62 105.413,-37.928
Mid-Layer 9:
  lines w2: -120.668,-16.281 -112.137,-12.314 -100.139,-39.263 -90.052,-43.11 ; -119.577,-18.53 -113.954,-15.878 -101.245,-43.604 -90.413,-46.505 -87.415,-45.278 -85.991,-41.49 ; -118.486,-20.779 -115.706,-19.45 -102.696,-47.036 -91.225,-50.104 -84.81,-47.471 -81.903,-39.941 ; -107.901,-2.876 -98.769,-5.154 -88.018,-33.161 -77.953,-37.992 ; -103.318,-0.485 -94.215,-2.917 -83.955,-31.108 -73.805,-36.584 ; -98.687,1.828 -89.453,-1.231 -79.685,-29.596 -69.781,-34.771 ; -94.007,4.064 -84.661,0.373 -75.39,-28.159 -65.578,-33.506 ; -89.123,5.746 -79.842,1.892 -71.071,-26.797 -61.353,-32.314 ; -84.209,7.342 -75.135,3.808 -66.866,-25.03 -57.108,-31.197 ; -79.411,9.332 -70.129,4.677 ; -74.303,10.276 -65.358,6.427 -58.1,-22.681 -48.669,-28.696 ; -70.099,4.566 -62.494,-23.818 -52.959,-29.667 ; -69.313,11.613 -60.436,7.609 -53.688,-21.622 -45.001,-27.418 ; -64.3,12.863 -55.703,9.683 ; -59.267,14.025 -50.726,10.695 ; -55.599,9.194 -49.362,-20.151 ; -54.213,15.099 -45.732,11.621 ; -50.631,10.204 -44.906,-19.244 -36.875,-25.921 ; -49.258,-20.64 -41.215,-26.686 ; -49.233,16.577 -40.723,12.459 -36.03,-17.172 -28.093,-25.114 ; -45.645,11.128 -40.436,-18.416 -32.522,-25.232 ; -44.22,17.969 -35.7,13.21 -31.525,-16.498 -23.728,-24.578 ; -39.1,18.779 -30.665,13.873 -27.008,-15.904 -19.402,-23.621 ; -33.967,19.501 -25.618,14.448 -22.483,-15.388 -14.972,-23.735 ; -28.822,20.133 -20.563,14.934 -17.948,-14.951 -10.585,-23.428 ; -23.667,20.674 -15.5,15.333 -13.407,-14.594 -6.193,-23.198 ; -18.503,21.126 -10.43,15.643 -8.86,-14.316 -1.797,-23.045 ; -13.332,21.488 -5.339,15.365 -4.292,-14.617 2.6,-22.968 ; -8.156,21.759 -0.271,15.497 0.253,-14.498 6.998,-22.968 ; -2.975,21.94 4.799,16.042 4.799,-13.958 11.396,-23.045 ; 2.208,22.03 9.878,15.997 9.354,-13.998 15.791,-23.198 ; 7.391,22.03 14.955,15.864 13.908,-14.117 20.153,-23.927 ; 12.574,21.94 20.003,15.144 18.433,-14.815 24.351,-23.954 ; 17.754,21.759 25.064,14.834 22.971,-15.093 28.905,-24.616 ; 22.931,21.488 30.075,13.938 27.46,-15.948 33.27,-25.075 ; 28.102,21.126 35.113,13.453 31.977,-16.383 37.627,-25.61 ; 33.266,20.674 40.141,12.88 36.485,-16.896 41.9,-26.715 ; 38.421,20.133 45.16,12.219 40.984,-17.489 46.226,-27.401 ; 43.566,19.501 50.087,10.977 45.394,-18.653 50.449,-28.653 ; 48.699,18.779 55.071,10.144 49.948,-18.908 54.741,-29.487 ; 53.736,17.475 60.039,9.223 54.314,-20.226 59.018,-30.396 ; 58.832,16.577 64.886,7.726 58.649,-21.618 63.277,-31.38 ; 63.812,15.099 69.81,6.635 63.062,-22.596 67.394,-32.921 ; 68.865,14.025 74.715,5.457 67.457,-23.652 71.609,-34.051 ; 74.235,12.664 79.598,4.194 71.834,-24.783 75.661,-35.733 ; 78.912,11.613 84.321,2.366 76.052,-26.472 79.825,-37.006 ; 83.768,9.794 89.002,0.457 80.377,-27.753 83.808,-38.826 ; 87.917,-40.24 84.526,-29.586 93.796,-1.054 88.726,8.373 ; 91.666,-41.068 88.633,-31.487 98.4,-3.122 93.508,6.388 ; 95.735,-42.62 92.87,-32.987 103.13,-4.797 98.404,4.797 ; 97.079,-34.561 107.83,-6.554 103.711,2.434 ; 101.261,-36.208 112.499,-8.393 108.537,0.666 ; 105.413,-37.928 117.135,-10.313 113.331,-1.186
Mid-Layer 10:
  lines w2: -120.668,-16.281 -112.137,-12.314 -112.544,-11.4 -107.901,-2.876 ; -119.577,-18.53 -106.559,-12.614 -107.926,-9.393 -103.318,-0.485 ; -118.486,-20.779 -101.027,-13.029 -103.462,-7.002 -98.687,1.828 ; -98.948,-4.687 -94.007,4.064 ; -98.769,-5.154 -88.018,-33.161 -90.052,-43.11 ; -94.215,-2.917 -89.123,5.746 ; -94.044,-3.387 -83.955,-31.108 -85.991,-41.49 ; -84.209,7.342 -89.453,-1.231 -79.685,-29.596 -81.903,-39.941 ; -79.411,9.332 -84.506,-0.103 -75.236,-28.635 -77.953,-37.992 ; -74.303,10.276 -79.842,1.892 -71.071,-26.797 -73.805,-36.584 ; -69.781,-34.771 -66.866,-25.03 -75.135,3.808 -69.313,11.613 ; -65.578,-33.506 -62.494,-23.818 -70.258,5.16 -64.3,12.863 ; -61.353,-32.314 -58.1,-22.681 -65.358,6.427 -59.267,14.025 ; -57.108,-31.197 -53.8,-21.135 -60.549,8.096 -54.213,15.099 ; -52.959,-29.667 -49.362,-20.151 -55.599,9.194 -49.233,16.577 ; -48.669,-28.696 -45.002,-18.754 -50.726,10.695 -44.22,17.969 ; -45.001,-27.418 -40.523,-17.923 -45.732,11.621 -39.1,18.779 ; -41.215,-26.686 -36.03,-17.172 -40.723,12.459 -33.967,19.501 ; -36.875,-25.921 -31.525,-16.498 -35.7,13.21 -28.822,20.133 ; -32.522,-25.232 -27.008,-15.904 -30.665,13.873 -23.667,20.674 ; -28.093,-25.114 -22.378,-16.383 -25.514,13.453 -18.503,21.126 ; -23.728,-24.578 -17.905,-15.45 -20.519,14.436 -13.332,21.488 ; -19.402,-23.621 -13.407,-14.594 -15.5,15.333 -8.156,21.759 ; -14.972,-23.735 -8.86,-14.316 -10.43,15.643 -2.975,21.94 ; -10.585,-23.428 -4.309,-14.117 -5.356,15.864 2.208,22.03 ; -6.193,-23.198 0.244,-13.998 -0.279,15.997 7.391,22.03 ; -1.797,-23.045 4.799,-14.458 4.799,15.542 12.574,21.94 ; 2.6,-22.968 9.346,-14.498 9.869,15.497 17.754,21.759 ; 6.998,-22.968 13.891,-14.617 14.938,15.365 22.931,21.488 ; 11.396,-23.045 18.459,-14.316 20.029,15.643 28.102,21.126 ; 15.791,-23.198 23.006,-14.594 25.099,15.333 33.266,20.674 ; 20.153,-23.927 27.503,-15.45 30.118,14.436 38.421,20.133 ; 24.301,-23.986 31.925,-16.88 35.06,12.956 43.566,19.501 ; 28.905,-24.616 36.424,-17.393 40.081,12.384 48.699,18.779 ; 33.27,-25.075 40.984,-17.489 45.16,12.219 53.736,17.475 ; 37.627,-25.61 45.472,-18.159 50.165,11.471 58.832,16.577 ; 41.9,-26.715 49.861,-19.401 55.071,10.144 63.812,15.099 ; 46.226,-27.401 54.314,-20.226 60.039,9.223 68.865,14.025 ; 50.449,-28.653 58.545,-22.107 64.782,7.237 73.899,12.863 ; 54.741,-29.487 62.949,-23.084 69.698,6.147 78.912,11.613 ; 59.018,-30.396 67.336,-24.137 74.594,4.972 83.768,9.794 ; 63.277,-31.38 71.834,-24.783 79.598,4.194 88.726,8.373 ; 67.394,-32.921 76.052,-26.472 84.321,2.366 93.508,6.388 ; 71.609,-34.051 80.377,-27.753 89.149,0.936 98.404,4.797 ; 75.661,-35.733 84.371,-30.061 93.642,-1.53 103.711,2.434 ; 79.825,-37.006 88.633,-31.487 98.4,-3.122 108.537,0.666 ; 83.808,-38.826 92.87,-32.987 103.13,-4.797 113.331,-1.186 ; 87.917,-40.24 97.079,-34.561 ; 91.666,-41.068 101.261,-36.208 ; 95.735,-42.62 105.413,-37.928
Mid-Layer 11:
  lines w2: -123.941,-9.533 -115.188,-5.462 -100.139,-39.263 -90.052,-43.11 ; -122.85,-11.782 -117.079,-9.06 -101.245,-43.604 -90.413,-46.505 -87.415,-45.278 -85.991,-41.49 ; -121.759,-14.031 -118.905,-12.666 -102.696,-47.036 -91.225,-50.104 -84.81,-47.471 -81.903,-39.941 ; -107.901,-2.876 -98.769,-5.154 -88.018,-33.161 -77.953,-37.992 ; -103.318,-0.485 -94.215,-2.917 -83.955,-31.108 -73.805,-36.584 ; -98.687,1.828 -89.453,-1.231 -79.685,-29.596 -69.781,-34.771 ; -94.007,4.064 -84.661,0.373 -75.39,-28.159 -65.578,-33.506 ; -89.123,5.746 -79.842,1.892 -71.071,-26.797 -61.353,-32.314 ; -84.209,7.342 -75.135,3.808 -66.866,-25.03 -57.108,-31.197 ; -79.411,9.332 -70.129,4.677 ; -74.303,10.276 -65.358,6.427 -58.1,-22.681 -48.669,-28.696 ; -70.099,4.566 -62.494,-23.818 -52.959,-29.667 ; -69.313,11.613 -60.436,7.609 -53.688,-21.622 -45.001,-27.418 ; -64.3,12.863 -55.703,9.683 ; -59.267,14.025 -50.726,10.695 ; -55.599,9.194 -49.362,-20.151 ; -54.213,15.099 -45.732,11.621 ; -50.631,10.204 -44.906,-19.244 -36.875,-25.921 ; -49.258,-20.64 -41.215,-26.686 ; -49.233,16.577 -40.723,12.459 -36.03,-17.172 -28.093,-25.114 ; -45.645,11.128 -40.436,-18.416 -32.522,-25.232 ; -44.22,17.969 -35.7,13.21 -31.525,-16.498 -23.728,-24.578 ; -39.1,18.779 -30.665,13.873 -27.008,-15.904 -19.402,-23.621 ; -33.967,19.501 -25.618,14.448 -22.483,-15.388 -14.972,-23.735 ; -28.822,20.133 -20.563,14.934 -17.948,-14.951 -10.585,-23.428 ; -23.667,20.674 -15.5,15.333 -13.407,-14.594 -6.193,-23.198 ; -18.503,21.126 -10.43,15.643 -8.86,-14.316 -1.797,-23.045 ; -13.332,21.488 -5.339,15.365 -4.292,-14.617 2.6,-22.968 ; -8.156,21.759 -0.271,15.497 0.253,-14.498 6.998,-22.968 ; -2.975,21.94 4.799,16.042 4.799,-13.958 11.396,-23.045 ; 2.208,22.03 9.878,15.997 9.354,-13.998 15.791,-23.198 ; 7.391,22.03 14.955,15.864 13.908,-14.117 20.153,-23.927 ; 12.574,21.94 20.003,15.144 18.433,-14.815 24.351,-23.954 ; 17.754,21.759 25.064,14.834 22.971,-15.093 28.905,-24.616 ; 22.931,21.488 30.075,13.938 27.46,-15.948 33.27,-25.075 ; 28.102,21.126 35.113,13.453 31.977,-16.383 37.627,-25.61 ; 33.266,20.674 40.141,12.88 36.485,-16.896 41.9,-26.715 ; 38.421,20.133 45.16,12.219 40.984,-17.489 46.226,-27.401 ; 43.566,19.501 50.087,10.977 45.394,-18.653 50.449,-28.653 ; 48.699,18.779 55.071,10.144 49.948,-18.908 54.741,-29.487 ; 53.736,17.475 60.039,9.223 54.314,-20.226 59.018,-30.396 ; 58.832,16.577 64.886,7.726 58.649,-21.618 63.277,-31.38 ; 63.812,15.099 69.81,6.635 63.062,-22.596 67.394,-32.921 ; 68.865,14.025 74.715,5.457 67.457,-23.652 71.609,-34.051 ; 74.235,12.664 79.598,4.194 71.834,-24.783 75.661,-35.733 ; 78.912,11.613 84.321,2.366 76.052,-26.472 79.825,-37.006 ; 83.768,9.794 89.002,0.457 80.377,-27.753 83.808,-38.826 ; 87.917,-40.24 84.526,-29.586 93.796,-1.054 88.726,8.373 ; 91.666,-41.068 88.633,-31.487 98.4,-3.122 93.508,6.388 ; 95.735,-42.62 92.87,-32.987 103.13,-4.797 98.404,4.797 ; 97.079,-34.561 107.83,-6.554 103.711,2.434 ; 101.261,-36.208 112.499,-8.393 108.537,0.666 ; 105.413,-37.928 117.135,-10.313 113.331,-1.186
Mid-Layer 12:
  lines w2: -123.941,-9.533 -111.058,-3.661 -107.901,-2.876 ; -122.85,-11.782 -111.835,-6.718 -110.04,-10.845 -107.731,-9.853 -107.926,-9.393 -103.318,-0.485 ; -121.759,-14.031 -113.154,-10.03 -111.12,-14.598 -101.963,-10.711 -103.462,-7.002 -98.687,1.828 ; -98.948,-4.687 -94.007,4.064 ; -98.769,-5.154 -88.018,-33.161 -90.052,-43.11 ; -94.215,-2.917 -89.123,5.746 ; -94.044,-3.387 -83.955,-31.108 -85.991,-41.49 ; -84.209,7.342 -89.453,-1.231 -79.685,-29.596 -81.903,-39.941 ; -79.411,9.332 -84.506,-0.103 -75.236,-28.635 -77.953,-37.992 ; -74.303,10.276 -79.842,1.892 -71.071,-26.797 -73.805,-36.584 ; -69.781,-34.771 -66.866,-25.03 -75.135,3.808 -69.313,11.613 ; -65.578,-33.506 -62.494,-23.818 -70.258,5.16 -64.3,12.863 ; -61.353,-32.314 -58.1,-22.681 -65.358,6.427 -59.267,14.025 ; -57.108,-31.197 -53.8,-21.135 -60.549,8.096 -54.213,15.099 ; -52.959,-29.667 -49.362,-20.151 -55.599,9.194 -49.233,16.577 ; -48.669,-28.696 -45.002,-18.754 -50.726,10.695 -44.22,17.969 ; -45.001,-27.418 -40.523,-17.923 -45.732,11.621 -39.1,18.779 ; -41.215,-26.686 -36.03,-17.172 -40.723,12.459 -33.967,19.501 ; -36.875,-25.921 -31.525,-16.498 -35.7,13.21 -28.822,20.133 ; -32.522,-25.232 -27.008,-15.904 -30.665,13.873 -23.667,20.674 ; -28.093,-25.114 -22.378,-16.383 -25.514,13.453 -18.503,21.126 ; -23.728,-24.578 -17.905,-15.45 -20.519,14.436 -13.332,21.488 ; -19.402,-23.621 -13.407,-14.594 -15.5,15.333 -8.156,21.759 ; -14.972,-23.735 -8.86,-14.316 -10.43,15.643 -2.975,21.94 ; -10.585,-23.428 -4.309,-14.117 -5.356,15.864 2.208,22.03 ; -6.193,-23.198 0.244,-13.998 -0.279,15.997 7.391,22.03 ; -1.797,-23.045 4.799,-14.458 4.799,15.542 12.574,21.94 ; 2.6,-22.968 9.346,-14.498 9.869,15.497 17.754,21.759 ; 6.998,-22.968 13.891,-14.617 14.938,15.365 22.931,21.488 ; 11.396,-23.045 18.459,-14.316 20.029,15.643 28.102,21.126 ; 15.791,-23.198 23.006,-14.594 25.099,15.333 33.266,20.674 ; 20.153,-23.927 27.503,-15.45 30.118,14.436 38.421,20.133 ; 24.301,-23.986 31.925,-16.88 35.06,12.956 43.566,19.501 ; 28.905,-24.616 36.424,-17.393 40.081,12.384 48.699,18.779 ; 33.27,-25.075 40.984,-17.489 45.16,12.219 53.736,17.475 ; 37.627,-25.61 45.472,-18.159 50.165,11.471 58.832,16.577 ; 41.9,-26.715 49.861,-19.401 55.071,10.144 63.812,15.099 ; 46.226,-27.401 54.314,-20.226 60.039,9.223 68.865,14.025 ; 50.449,-28.653 58.545,-22.107 64.782,7.237 73.899,12.863 ; 54.741,-29.487 62.949,-23.084 69.698,6.147 78.912,11.613 ; 59.018,-30.396 67.336,-24.137 74.594,4.972 83.768,9.794 ; 63.277,-31.38 71.834,-24.783 79.598,4.194 88.726,8.373 ; 67.394,-32.921 76.052,-26.472 84.321,2.366 93.508,6.388 ; 71.609,-34.051 80.377,-27.753 89.149,0.936 98.404,4.797 ; 75.661,-35.733 84.371,-30.061 93.642,-1.53 103.711,2.434 ; 79.825,-37.006 88.633,-31.487 98.4,-3.122 108.537,0.666 ; 83.808,-38.826 92.87,-32.987 103.13,-4.797 113.331,-1.186 ; 87.917,-40.24 97.079,-34.561 ; 91.666,-41.068 101.261,-36.208 ; 95.735,-42.62 105.413,-37.928
Bottom Layer:
  lines w2: -123.334,-4.805 -122.049,-7.516 -112.341,-11.857 -100.139,-39.263 -90.052,-43.11 ; -119.787,-3.151 -118.537,-5.878 -107.731,-9.853 -96.009,-37.468 -85.991,-41.49 ; -115.622,-1.28 -114.414,-4.026 -103.087,-7.929 -91.849,-35.745 -81.903,-39.941 ; -107.901,-2.876 -98.769,-5.154 -88.018,-33.161 -77.953,-37.992 ; -103.318,-0.485 -94.215,-2.917 -83.955,-31.108 -73.805,-36.584 ; -98.687,1.828 -89.453,-1.231 -79.685,-29.596 -69.781,-34.771 ; -94.007,4.064 -84.661,0.373 -75.39,-28.159 -65.578,-33.506 ; -89.123,5.746 -79.842,1.892 -71.071,-26.797 -61.353,-32.314 ; -84.209,7.342 -75.135,3.808 -66.866,-25.03 -57.108,-31.197 ; -79.411,9.332 -70.129,4.677 ; -74.303,10.276 -65.358,6.427 -58.1,-22.681 -48.669,-28.696 ; -70.099,4.566 -62.494,-23.818 -52.959,-29.667 ; -69.313,11.613 -60.436,7.609 -53.688,-21.622 -45.001,-27.418 ; -64.3,12.863 -55.703,9.683 ; -59.267,14.025 -50.726,10.695 ; -55.599,9.194 -49.362,-20.151 ; -54.213,15.099 -45.732,11.621 ; -50.631,10.204 -44.906,-19.244 -36.875,-25.921 ; -49.258,-20.64 -41.215,-26.686 ; -49.233,16.577 -40.723,12.459 -36.03,-17.172 -28.093,-25.114 ; -45.645,11.128 -40.436,-18.416 -32.522,-25.232 ; -44.22,17.969 -35.7,13.21 -31.525,-16.498 -23.728,-24.578 ; -39.1,18.779 -30.665,13.873 -27.008,-15.904 -19.402,-23.621 ; -33.967,19.501 -25.618,14.448 -22.483,-15.388 -14.972,-23.735 ; -28.822,20.133 -20.563,14.934 -17.948,-14.951 -10.585,-23.428 ; -23.667,20.674 -15.5,15.333 -13.407,-14.594 -6.193,-23.198 ; -18.503,21.126 -10.43,15.643 -8.86,-14.316 -1.797,-23.045 ; -13.332,21.488 -5.339,15.365 -4.292,-14.617 2.6,-22.968 ; -8.156,21.759 -0.271,15.497 0.253,-14.498 6.998,-22.968 ; -2.975,21.94 4.799,16.042 4.799,-13.958 11.396,-23.045 ; 2.208,22.03 9.878,15.997 9.354,-13.998 15.791,-23.198 ; 7.391,22.03 14.955,15.864 13.908,-14.117 20.153,-23.927 ; 12.574,21.94 20.003,15.144 18.433,-14.815 24.351,-23.954 ; 17.754,21.759 25.064,14.834 22.971,-15.093 28.905,-24.616 ; 22.931,21.488 30.075,13.938 27.46,-15.948 33.27,-25.075 ; 28.102,21.126 35.113,13.453 31.977,-16.383 37.627,-25.61 ; 33.266,20.674 40.141,12.88 36.485,-16.896 41.9,-26.715 ; 38.421,20.133 45.16,12.219 40.984,-17.489 46.226,-27.401 ; 43.566,19.501 50.087,10.977 45.394,-18.653 50.449,-28.653 ; 48.699,18.779 55.071,10.144 49.948,-18.908 54.741,-29.487 ; 53.736,17.475 60.039,9.223 54.314,-20.226 59.018,-30.396 ; 58.832,16.577 64.886,7.726 58.649,-21.618 63.277,-31.38 ; 63.812,15.099 69.81,6.635 63.062,-22.596 67.394,-32.921 ; 68.865,14.025 74.715,5.457 67.457,-23.652 71.609,-34.051 ; 74.235,12.664 79.598,4.194 71.834,-24.783 75.661,-35.733 ; 78.912,11.613 84.321,2.366 76.052,-26.472 79.825,-37.006 ; 83.768,9.794 89.002,0.457 80.377,-27.753 83.808,-38.826 ; 87.917,-40.24 84.526,-29.586 93.796,-1.054 88.726,8.373 ; 91.666,-41.068 88.633,-31.487 98.4,-3.122 93.508,6.388 ; 95.735,-42.62 92.87,-32.987 103.13,-4.797 98.404,4.797 ; 97.079,-34.561 107.83,-6.554 103.711,2.434 ; 101.261,-36.208 112.499,-8.393 108.537,0.666 ; 105.413,-37.928 117.135,-10.313 113.331,-1.186